# Altium integrated library Lattice CPLD ispMACH.IntLib: 663 symbols (part 47 of 48)
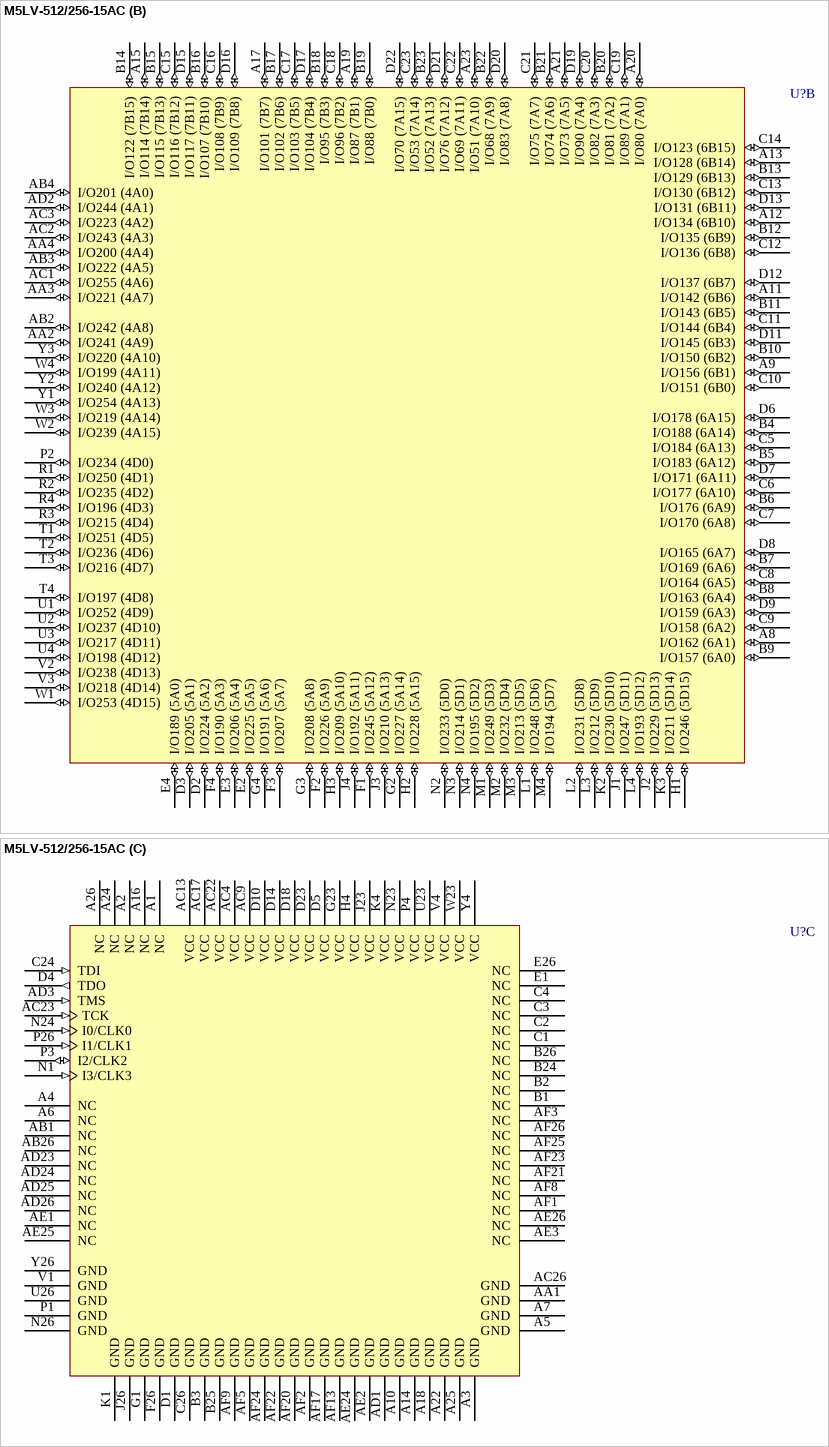
[diagram p352: symbol M5LV-512/256-15AC]

## M5LV-512/256-15AC
designator U?
High-Density and High-I/O Complex PLD; Published: 23-Sep-2002; LatestRevisionDate: 13-Apr-2006; LatestRevisionNote: IPC-7351 Footprint Added.; DatasheetVersion: Sep-2000; PackageVersion: pkg_32, Aug-2005; PackageReference: SBGA352; Publisher: Altium Limited; PackageDescription: 352-Ball Super Ball Grid Array (SBGA352); ComponentLink1Description: Manufacturer Link; ComponentLink1URL: http://www.latticesemi.com/products/mature/index.cfm; ComponentLink2Description: Datasheet; ComponentLink2URL: http://www.latticesemi.com/lit/docs/datasheets/cpld/mach5.pdf
footprint SBGA352 (BGA, 352-Leads, Body 35x35mm, Pitch 1.27mm)
3D model M5LV-SBGA352 (352-Ball Super Ball Grid Array (SBGA352))
part A pins: AA23 I/O65 (1A3) (io), AA24 I/O48 (1A7) (io), AA25 I/O29 (1A9) (io), AA26 I/O10 (1A12) (io), AB23 I/O66 (1A0) (io), AB24 I/O49 (1A4) (io), AB25 I/O30 (1A5) (io), AC5 I/O185 (3A14) (io), AC6 I/O179 (3A10) (io), AC7 I/O172 (3A6) (io), AC8 I/O166 (3A2) (io), AC10 I/O152 (3B3) (io), AC11 I/O146 (3B7) (io), AC12 I/O138 (3B11) (io), AC14 I/O124 (2B11) (io), AC15 I/O118 (2B7) (io), AC16 I/O110 (2B3) (io), AC18 I/O97 (2A3) (io), AC19 I/O91 (2A7) (io), AC20 I/O84 (2A11) (io), AC21 I/O77 (2A15) (io), AC24 I/O50 (1A1) (io), AC25 I/O31 (1A2) (io), AD4 I/O202 (3A15) (io), AD5 I/O186 (3A11) (io), AD6 I/O180 (3A8) (io), AD7 I/O173 (3A4) (io), AD8 I/O167 (3A1) (io), AD9 I/O160 (3B1) (io), AD10 I/O153 (3B4) (io), AD11 I/O147 (3B8) (io), AD12 I/O139 (3B12) (io), AD13 I/O132 (2B15) (io), AD14 I/O125 (2B12) (io), AD15 I/O119 (2B8) (io), AD16 I/O111 (2B4) (io), AD17 I/O105 (2B0) (io), AD18 I/O98 (2A2) (io), AD19 I/O92 (2A5) (io), AD20 I/O85 (2A8) (io), AD21 I/O78 (2A10) (io), AD22 I/O71 (2A13) (io), AE4 I/O203 (3A13) (io), AE5 I/O187 (3A9) (io), AE6 I/O181 (3A7) (io), AE7 I/O174 (3A3) (io), AE8 I/O168 (3B0) (io), AE9 I/O161 (3B2) (io), AE10 I/O154 (3B5) (io), AE11 I/O148 (3B9) (io), AE12 I/O140 (3B13) (io), AE13 I/O133 (3B15) (io), AE14 I/O126 (2B13) (io), AE15 I/O120 (2B9) (io), AE16 I/O112 (2B5) (io), AE17 I/O106 (2B2) (io), AE18 I/O99 (2A0) (io), AE19 I/O93 (2A4) (io), AE20 I/O86 (2A6) (io), AE21 I/O79 (2A9) (io), AE22 I/O72 (2A12) (io), AE23 I/O67 (2A14) (io), AF4 I/O204 (3A12) (io), AF6 I/O182 (3A5) (io), AF7 I/O175 (3A0) (io), AF10 I/O155 (3B6) (io), AF11 I/O149 (3B10) (io), AF12 I/O141 (3B14) (io), AF14 I/O127 (2B14) (io), AF15 I/O121 (2B10) (io), AF16 I/O113 (2B6) (io), AF18 I/O100 (2B1) (io), AF19 I/O94 (2A1) (io), C25 I/O11 (0A1) (io), D24 I/O32 (0A2) (io), D25 I/O12 (0A3) (io), D26 I/O0 (0A6) (io), E23 I/O54 (0A0) (io), E24 I/O33 (0A5) (io), E25 I/O13 (0A8) (io), F23 I/O55 (0A4) (io), F24 I/O34 (0A7) (io), F25 I/O14 (0A9) (io), G24 I/O35 (0A10) (io), G25 I/O15 (0A12) (io), G26 I/O1 (0A13) (io), H23 I/O56 (0A11) (io), H24 I/O36 (0A14) (io), H25 I/O16 (0A15) (io), H26 I/O2 (0D15) (io), J24 I/O37 (0D14) (io), J25 I/O17 (0D13) (io), K23 I/O57 (0D12) (io), K24 I/O38 (0D11) (io), K25 I/O18 (0D10) (io), K26 I/O3 (0D9) (io), L23 I/O58 (0D8) (io), L24 I/O39 (0D7) (io), L25 I/O19 (0D6) (io), L26 I/O4 (0D5) (io), M23 I/O59 (0D3) (io), M24 I/O40 (0D4) (io), M25 I/O20 (0D2) (io), M26 I/O5 (0D1) (io), N25 I/O21 (0D0) (io), P23 I/O60 (1D2) (io), P24 I/O41 (1D1) (io), P25 I/O22 (1D0) (io), R23 I/O61 (1D7) (io), R24 I/O42 (1D5) (io), R25 I/O23 (1D4) (io), R26 I/O6 (1D3) (io), T23 I/O62 (1D12) (io), T24 I/O43 (1D9) (io), T25 I/O24 (1D8) (io), T26 I/O7 (1D6) (io), U24 I/O44 (1D14) (io), U25 I/O25 (1D10) (io), V23 I/O63 (1A11) (io), V24 I/O45 (1A13) (io), V25 I/O26 (1D13) (io), V26 I/O8 (1D11) (io), W24 I/O46 (1A10) (io), W25 I/O27 (1A15) (io), W26 I/O9 (1D15) (io), Y23 I/O64 (1A6) (io), Y24 I/O47 (1A8) (io), Y25 I/O28 (1A14) (io)
part B pins: A8 I/O162 (6A1) (io), A9 I/O156 (6B1) (io), A11 I/O142 (6B6) (io), A12 I/O134 (6B10) (io), A13 I/O128 (6B14) (io), A15 I/O114 (7B14) (io), A17 I/O101 (7B7) (io), A19 I/O87 (7B1) (io), A20 I/O80 (7A0) (io), A21 I/O73 (7A5) (io), A23 I/O51 (7A10) (io), AA2 I/O241 (4A9) (io), AA3 I/O221 (4A7) (io), AA4 I/O200 (4A4) (io), AB2 I/O242 (4A8) (io), AB3 I/O222 (4A5) (io), AB4 I/O201 (4A0) (io), AC1 I/O255 (4A6) (io), AC2 I/O243 (4A3) (io), AC3 I/O223 (4A2) (io), AD2 I/O244 (4A1) (io), B4 I/O188 (6A14) (io), B5 I/O183 (6A12) (io), B6 I/O176 (6A9) (io), B7 I/O169 (6A6) (io), B8 I/O163 (6A4) (io), B9 I/O157 (6A0) (io), B10 I/O150 (6B2) (io), B11 I/O143 (6B5) (io), B12 I/O135 (6B9) (io), B13 I/O129 (6B13) (io), B14 I/O122 (7B15) (io), B15 I/O115 (7B13) (io), B16 I/O107 (7B10) (io), B17 I/O102 (7B6) (io), B18 I/O95 (7B3) (io), B19 I/O88 (7B0) (io), B20 I/O81 (7A2) (io), B21 I/O74 (7A6) (io), B22 I/O68 (7A9) (io), B23 I/O52 (7A13) (io), C5 I/O184 (6A13) (io), C6 I/O177 (6A10) (io), C7 I/O170 (6A8) (io), C8 I/O164 (6A5) (io), C9 I/O158 (6A2) (io), C10 I/O151 (6B0) (io), C11 I/O144 (6B4) (io), C12 I/O136 (6B8) (io), C13 I/O130 (6B12) (io), C14 I/O123 (6B15) (io), C15 I/O116 (7B12) (io), C16 I/O108 (7B9) (io), C17 I/O103 (7B5) (io), C18 I/O96 (7B2) (io), C19 I/O89 (7A1) (io), C20 I/O82 (7A3) (io), C21 I/O75 (7A7) (io), C22 I/O69 (7A11) (io), C23 I/O53 (7A14) (io), D2 I/O224 (5A2) (io), D3 I/O205 (5A1) (io), D6 I/O178 (6A15) (io), D7 I/O171 (6A11) (io), D8 I/O165 (6A7) (io), D9 I/O159 (6A3) (io), D11 I/O145 (6B3) (io), D12 I/O137 (6B7) (io), D13 I/O131 (6B11) (io), D15 I/O117 (7B11) (io), D16 I/O109 (7B8) (io), D17 I/O104 (7B4) (io), D19 I/O90 (7A4) (io), D20 I/O83 (7A8) (io), D21 I/O76 (7A12) (io), D22 I/O70 (7A15) (io), E2 I/O225 (5A5) (io), E3 I/O206 (5A4) (io), E4 I/O189 (5A0) (io), F1 I/O245 (5A12) (io), F2 I/O226 (5A9) (io), F3 I/O207 (5A7) (io), F4 I/O190 (5A3) (io), G2 I/O227 (5A14) (io), G3 I/O208 (5A8) (io), G4 I/O191 (5A6) (io), H1 I/O246 (5D15) (io), H2 I/O228 (5A15) (io), H3 I/O209 (5A10) (io), J1 I/O247 (5D11) (io), J2 I/O229 (5D13) (io), J3 I/O210 (5A13) (io), J4 I/O192 (5A11) (io), K2 I/O230 (5D10) (io), K3 I/O211 (5D14) (io), L1 I/O248 (5D6) (io), L2 I/O231 (5D8) (io), L3 I/O212 (5D9) (io), L4 I/O193 (5D12) (io), M1 I/O249 (5D3) (io), M2 I/O232 (5D4) (io), M3 I/O213 (5D5) (io), M4 I/O194 (5D7) (io), N2 I/O233 (5D0) (io), N3 I/O214 (5D1) (io), N4 I/O195 (5D2) (io), P2 I/O234 (4D0) (io), R1 I/O250 (4D1) (io), R2 I/O235 (4D2) (io), R3 I/O215 (4D4) (io), R4 I/O196 (4D3) (io), T1 I/O251 (4D5) (io), T2 I/O236 (4D6) (io), T3 I/O216 (4D7) (io), T4 I/O197 (4D8) (io), U1 I/O252 (4D9) (io), U2 I/O237 (4D10) (io), U3 I/O217 (4D11) (io), U4 I/O198 (4D12) (io), V2 I/O238 (4D13) (io), V3 I/O218 (4D14) (io), W1 I/O253 (4D15) (io), W2 I/O239 (4A15) (io), W3 I/O219 (4A14) (io), W4 I/O199 (4A11) (io), Y1 I/O254 (4A13) (io), Y2 I/O240 (4A12) (io), Y3 I/O220 (4A10) (io)
part C pins: A1 NC, A2 NC, A3 GND (power), A4 NC, A5 GND (power), A6 NC, A7 GND (power), A10 GND (power), A14 GND (power), A16 NC, A18 GND (power), A22 GND (power), A24 NC, A25 GND (power), A26 NC, AA1 GND (power), AB1 NC, AB26 NC, AC4 VCC (power), AC9 VCC (power), AC13 VCC (power), AC17 VCC (power), AC22 VCC (power), AC23 TCK (in), AC26 GND (power), AD1 GND (power), AD3 TMS (in), AD23 NC, AD24 NC, AD25 NC, AD26 NC, AE1 NC, AE2 GND (power), AE3 NC, AE24 GND (power), AE25 NC, AE26 NC, AF1 NC, AF2 GND (power), AF3 NC, AF5 GND (power), AF8 NC, AF9 GND (power), AF13 GND (power), AF17 GND (power), AF20 GND (power), AF21 NC, AF22 GND (power), AF23 NC, AF24 GND (power), AF25 NC, AF26 NC, B1 NC, B2 NC, B3 GND (power), B24 NC, B25 GND (power), B26 NC, C1 NC, C2 NC, C3 NC, C4 NC, C24 TDI (in), C26 GND (power), D1 GND (power), D4 TDO (out), D5 VCC (power), D10 VCC (power), D14 VCC (power), D18 VCC (power), D23 VCC (power), E1 NC, E26 NC, F26 GND (power), G1 GND (power), G23 VCC (power), H4 VCC (power), J23 VCC (power), J26 GND (power), K1 GND (power), K4 VCC (power), N1 I3/CLK3 (in), N23 VCC (power), N24 I0/CLK0 (in), N26 GND (power), P1 GND (power), P3 I2/CLK2 (io), P4 VCC (power), P26 I1/CLK1 (in), U23 VCC (power), U26 GND (power), V1 GND (power), V4 VCC (power), W23 VCC (power), Y4 VCC (power), Y26 GND (power)

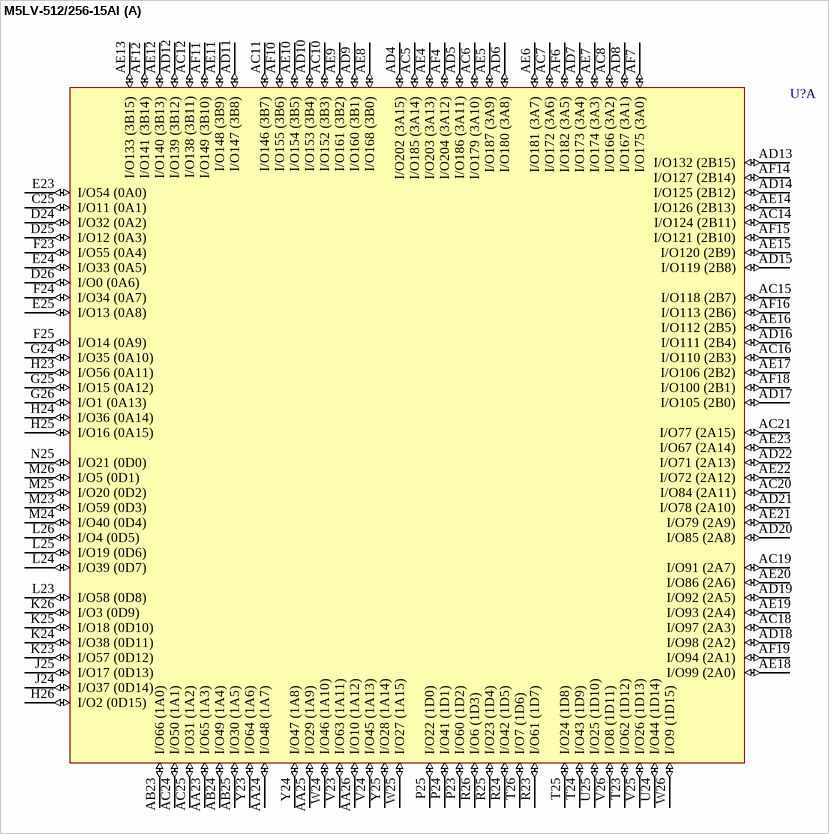
[diagram p300: symbol M5LV-512/256-15AI]

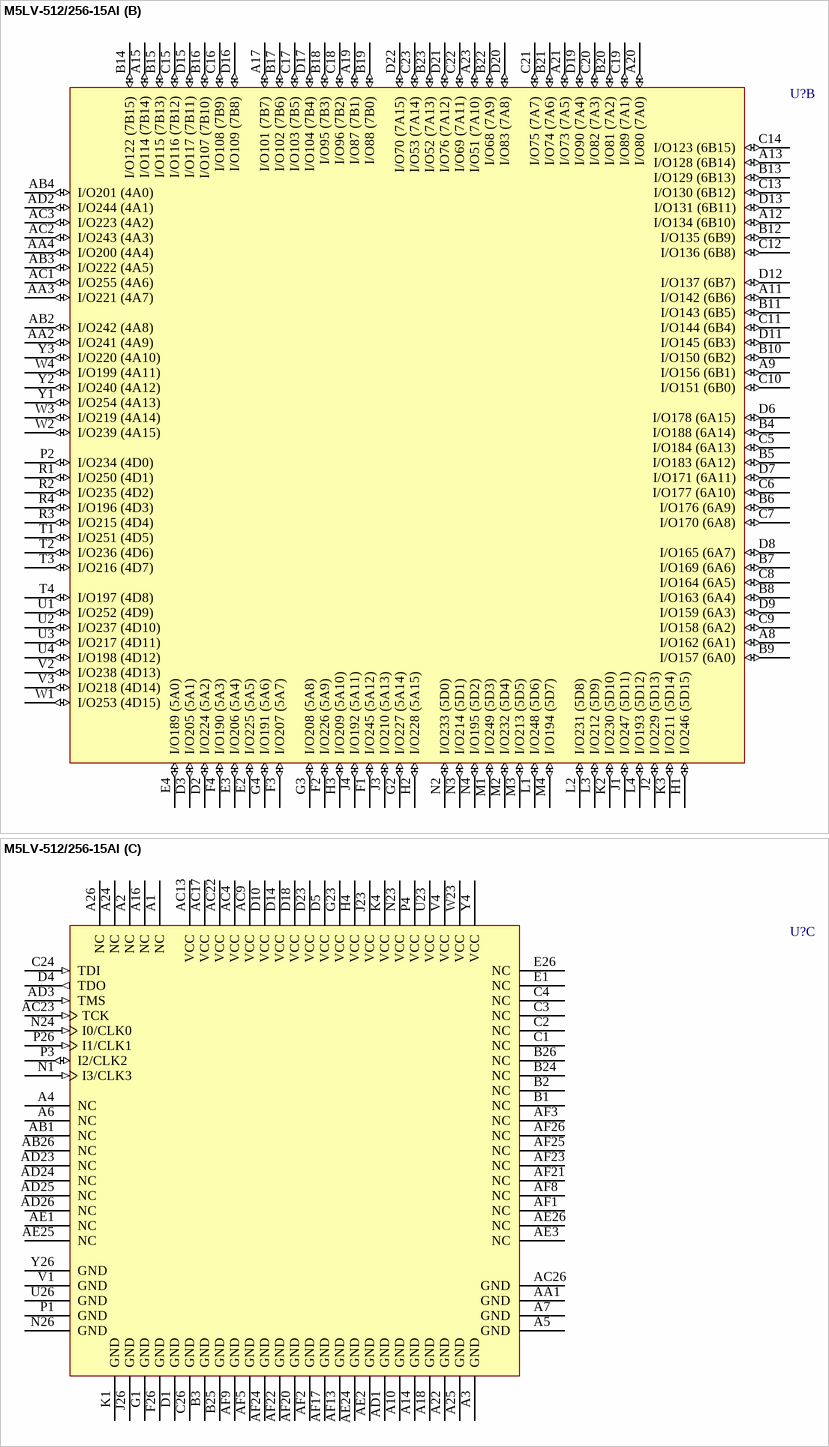
[diagram p301: symbol M5LV-512/256-15AI]

## M5LV-512/256-15AI
designator U?
High-Density and High-I/O Complex PLD; Published: 23-Sep-2002; LatestRevisionDate: 13-Apr-2006; LatestRevisionNote: IPC-7351 Footprint Added.; DatasheetVersion: Sep-2000; PackageVersion: pkg_32, Aug-2005; PackageReference: SBGA352; Publisher: Altium Limited; PackageDescription: 352-Ball Super Ball Grid Array (SBGA352); ComponentLink1Description: Manufacturer Link; ComponentLink1URL: http://www.latticesemi.com/products/mature/index.cfm; ComponentLink2Description: Datasheet; ComponentLink2URL: http://www.latticesemi.com/lit/docs/datasheets/cpld/mach5.pdf
footprint SBGA352 (BGA, 352-Leads, Body 35x35mm, Pitch 1.27mm)
3D model M5LV-SBGA352 (352-Ball Super Ball Grid Array (SBGA352))
part A pins: AA23 I/O65 (1A3) (io), AA24 I/O48 (1A7) (io), AA25 I/O29 (1A9) (io), AA26 I/O10 (1A12) (io), AB23 I/O66 (1A0) (io), AB24 I/O49 (1A4) (io), AB25 I/O30 (1A5) (io), AC5 I/O185 (3A14) (io), AC6 I/O179 (3A10) (io), AC7 I/O172 (3A6) (io), AC8 I/O166 (3A2) (io), AC10 I/O152 (3B3) (io), AC11 I/O146 (3B7) (io), AC12 I/O138 (3B11) (io), AC14 I/O124 (2B11) (io), AC15 I/O118 (2B7) (io), AC16 I/O110 (2B3) (io), AC18 I/O97 (2A3) (io), AC19 I/O91 (2A7) (io), AC20 I/O84 (2A11) (io), AC21 I/O77 (2A15) (io), AC24 I/O50 (1A1) (io), AC25 I/O31 (1A2) (io), AD4 I/O202 (3A15) (io), AD5 I/O186 (3A11) (io), AD6 I/O180 (3A8) (io), AD7 I/O173 (3A4) (io), AD8 I/O167 (3A1) (io), AD9 I/O160 (3B1) (io), AD10 I/O153 (3B4) (io), AD11 I/O147 (3B8) (io), AD12 I/O139 (3B12) (io), AD13 I/O132 (2B15) (io), AD14 I/O125 (2B12) (io), AD15 I/O119 (2B8) (io), AD16 I/O111 (2B4) (io), AD17 I/O105 (2B0) (io), AD18 I/O98 (2A2) (io), AD19 I/O92 (2A5) (io), AD20 I/O85 (2A8) (io), AD21 I/O78 (2A10) (io), AD22 I/O71 (2A13) (io), AE4 I/O203 (3A13) (io), AE5 I/O187 (3A9) (io), AE6 I/O181 (3A7) (io), AE7 I/O174 (3A3) (io), AE8 I/O168 (3B0) (io), AE9 I/O161 (3B2) (io), AE10 I/O154 (3B5) (io), AE11 I/O148 (3B9) (io), AE12 I/O140 (3B13) (io), AE13 I/O133 (3B15) (io), AE14 I/O126 (2B13) (io), AE15 I/O120 (2B9) (io), AE16 I/O112 (2B5) (io), AE17 I/O106 (2B2) (io), AE18 I/O99 (2A0) (io), AE19 I/O93 (2A4) (io), AE20 I/O86 (2A6) (io), AE21 I/O79 (2A9) (io), AE22 I/O72 (2A12) (io), AE23 I/O67 (2A14) (io), AF4 I/O204 (3A12) (io), AF6 I/O182 (3A5) (io), AF7 I/O175 (3A0) (io), AF10 I/O155 (3B6) (io), AF11 I/O149 (3B10) (io), AF12 I/O141 (3B14) (io), AF14 I/O127 (2B14) (io), AF15 I/O121 (2B10) (io), AF16 I/O113 (2B6) (io), AF18 I/O100 (2B1) (io), AF19 I/O94 (2A1) (io), C25 I/O11 (0A1) (io), D24 I/O32 (0A2) (io), D25 I/O12 (0A3) (io), D26 I/O0 (0A6) (io), E23 I/O54 (0A0) (io), E24 I/O33 (0A5) (io), E25 I/O13 (0A8) (io), F23 I/O55 (0A4) (io), F24 I/O34 (0A7) (io), F25 I/O14 (0A9) (io), G24 I/O35 (0A10) (io), G25 I/O15 (0A12) (io), G26 I/O1 (0A13) (io), H23 I/O56 (0A11) (io), H24 I/O36 (0A14) (io), H25 I/O16 (0A15) (io), H26 I/O2 (0D15) (io), J24 I/O37 (0D14) (io), J25 I/O17 (0D13) (io), K23 I/O57 (0D12) (io), K24 I/O38 (0D11) (io), K25 I/O18 (0D10) (io), K26 I/O3 (0D9) (io), L23 I/O58 (0D8) (io), L24 I/O39 (0D7) (io), L25 I/O19 (0D6) (io), L26 I/O4 (0D5) (io), M23 I/O59 (0D3) (io), M24 I/O40 (0D4) (io), M25 I/O20 (0D2) (io), M26 I/O5 (0D1) (io), N25 I/O21 (0D0) (io), P23 I/O60 (1D2) (io), P24 I/O41 (1D1) (io), P25 I/O22 (1D0) (io), R23 I/O61 (1D7) (io), R24 I/O42 (1D5) (io), R25 I/O23 (1D4) (io), R26 I/O6 (1D3) (io), T23 I/O62 (1D12) (io), T24 I/O43 (1D9) (io), T25 I/O24 (1D8) (io), T26 I/O7 (1D6) (io), U24 I/O44 (1D14) (io), U25 I/O25 (1D10) (io), V23 I/O63 (1A11) (io), V24 I/O45 (1A13) (io), V25 I/O26 (1D13) (io), V26 I/O8 (1D11) (io), W24 I/O46 (1A10) (io), W25 I/O27 (1A15) (io), W26 I/O9 (1D15) (io), Y23 I/O64 (1A6) (io), Y24 I/O47 (1A8) (io), Y25 I/O28 (1A14) (io)
part B pins: A8 I/O162 (6A1) (io), A9 I/O156 (6B1) (io), A11 I/O142 (6B6) (io), A12 I/O134 (6B10) (io), A13 I/O128 (6B14) (io), A15 I/O114 (7B14) (io), A17 I/O101 (7B7) (io), A19 I/O87 (7B1) (io), A20 I/O80 (7A0) (io), A21 I/O73 (7A5) (io), A23 I/O51 (7A10) (io), AA2 I/O241 (4A9) (io), AA3 I/O221 (4A7) (io), AA4 I/O200 (4A4) (io), AB2 I/O242 (4A8) (io), AB3 I/O222 (4A5) (io), AB4 I/O201 (4A0) (io), AC1 I/O255 (4A6) (io), AC2 I/O243 (4A3) (io), AC3 I/O223 (4A2) (io), AD2 I/O244 (4A1) (io), B4 I/O188 (6A14) (io), B5 I/O183 (6A12) (io), B6 I/O176 (6A9) (io), B7 I/O169 (6A6) (io), B8 I/O163 (6A4) (io), B9 I/O157 (6A0) (io), B10 I/O150 (6B2) (io), B11 I/O143 (6B5) (io), B12 I/O135 (6B9) (io), B13 I/O129 (6B13) (io), B14 I/O122 (7B15) (io), B15 I/O115 (7B13) (io), B16 I/O107 (7B10) (io), B17 I/O102 (7B6) (io), B18 I/O95 (7B3) (io), B19 I/O88 (7B0) (io), B20 I/O81 (7A2) (io), B21 I/O74 (7A6) (io), B22 I/O68 (7A9) (io), B23 I/O52 (7A13) (io), C5 I/O184 (6A13) (io), C6 I/O177 (6A10) (io), C7 I/O170 (6A8) (io), C8 I/O164 (6A5) (io), C9 I/O158 (6A2) (io), C10 I/O151 (6B0) (io), C11 I/O144 (6B4) (io), C12 I/O136 (6B8) (io), C13 I/O130 (6B12) (io), C14 I/O123 (6B15) (io), C15 I/O116 (7B12) (io), C16 I/O108 (7B9) (io), C17 I/O103 (7B5) (io), C18 I/O96 (7B2) (io), C19 I/O89 (7A1) (io), C20 I/O82 (7A3) (io), C21 I/O75 (7A7) (io), C22 I/O69 (7A11) (io), C23 I/O53 (7A14) (io), D2 I/O224 (5A2) (io), D3 I/O205 (5A1) (io), D6 I/O178 (6A15) (io), D7 I/O171 (6A11) (io), D8 I/O165 (6A7) (io), D9 I/O159 (6A3) (io), D11 I/O145 (6B3) (io), D12 I/O137 (6B7) (io), D13 I/O131 (6B11) (io), D15 I/O117 (7B11) (io), D16 I/O109 (7B8) (io), D17 I/O104 (7B4) (io), D19 I/O90 (7A4) (io), D20 I/O83 (7A8) (io), D21 I/O76 (7A12) (io), D22 I/O70 (7A15) (io), E2 I/O225 (5A5) (io), E3 I/O206 (5A4) (io), E4 I/O189 (5A0) (io), F1 I/O245 (5A12) (io), F2 I/O226 (5A9) (io), F3 I/O207 (5A7) (io), F4 I/O190 (5A3) (io), G2 I/O227 (5A14) (io), G3 I/O208 (5A8) (io), G4 I/O191 (5A6) (io), H1 I/O246 (5D15) (io), H2 I/O228 (5A15) (io), H3 I/O209 (5A10) (io), J1 I/O247 (5D11) (io), J2 I/O229 (5D13) (io), J3 I/O210 (5A13) (io), J4 I/O192 (5A11) (io), K2 I/O230 (5D10) (io), K3 I/O211 (5D14) (io), L1 I/O248 (5D6) (io), L2 I/O231 (5D8) (io), L3 I/O212 (5D9) (io), L4 I/O193 (5D12) (io), M1 I/O249 (5D3) (io), M2 I/O232 (5D4) (io), M3 I/O213 (5D5) (io), M4 I/O194 (5D7) (io), N2 I/O233 (5D0) (io), N3 I/O214 (5D1) (io), N4 I/O195 (5D2) (io), P2 I/O234 (4D0) (io), R1 I/O250 (4D1) (io), R2 I/O235 (4D2) (io), R3 I/O215 (4D4) (io), R4 I/O196 (4D3) (io), T1 I/O251 (4D5) (io), T2 I/O236 (4D6) (io), T3 I/O216 (4D7) (io), T4 I/O197 (4D8) (io), U1 I/O252 (4D9) (io), U2 I/O237 (4D10) (io), U3 I/O217 (4D11) (io), U4 I/O198 (4D12) (io), V2 I/O238 (4D13) (io), V3 I/O218 (4D14) (io), W1 I/O253 (4D15) (io), W2 I/O239 (4A15) (io), W3 I/O219 (4A14) (io), W4 I/O199 (4A11) (io), Y1 I/O254 (4A13) (io), Y2 I/O240 (4A12) (io), Y3 I/O220 (4A10) (io)
part C pins: A1 NC, A2 NC, A3 GND (power), A4 NC, A5 GND (power), A6 NC, A7 GND (power), A10 GND (power), A14 GND (power), A16 NC, A18 GND (power), A22 GND (power), A24 NC, A25 GND (power), A26 NC, AA1 GND (power), AB1 NC, AB26 NC, AC4 VCC (power), AC9 VCC (power), AC13 VCC (power), AC17 VCC (power), AC22 VCC (power), AC23 TCK (in), AC26 GND (power), AD1 GND (power), AD3 TMS (in), AD23 NC, AD24 NC, AD25 NC, AD26 NC, AE1 NC, AE2 GND (power), AE3 NC, AE24 GND (power), AE25 NC, AE26 NC, AF1 NC, AF2 GND (power), AF3 NC, AF5 GND (power), AF8 NC, AF9 GND (power), AF13 GND (power), AF17 GND (power), AF20 GND (power), AF21 NC, AF22 GND (power), AF23 NC, AF24 GND (power), AF25 NC, AF26 NC, B1 NC, B2 NC, B3 GND (power), B24 NC, B25 GND (power), B26 NC, C1 NC, C2 NC, C3 NC, C4 NC, C24 TDI (in), C26 GND (power), D1 GND (power), D4 TDO (out), D5 VCC (power), D10 VCC (power), D14 VCC (power), D18 VCC (power), D23 VCC (power), E1 NC, E26 NC, F26 GND (power), G1 GND (power), G23 VCC (power), H4 VCC (power), J23 VCC (power), J26 GND (power), K1 GND (power), K4 VCC (power), N1 I3/CLK3 (in), N23 VCC (power), N24 I0/CLK0 (in), N26 GND (power), P1 GND (power), P3 I2/CLK2 (io), P4 VCC (power), P26 I1/CLK1 (in), U23 VCC (power), U26 GND (power), V1 GND (power), V4 VCC (power), W23 VCC (power), Y4 VCC (power), Y26 GND (power)

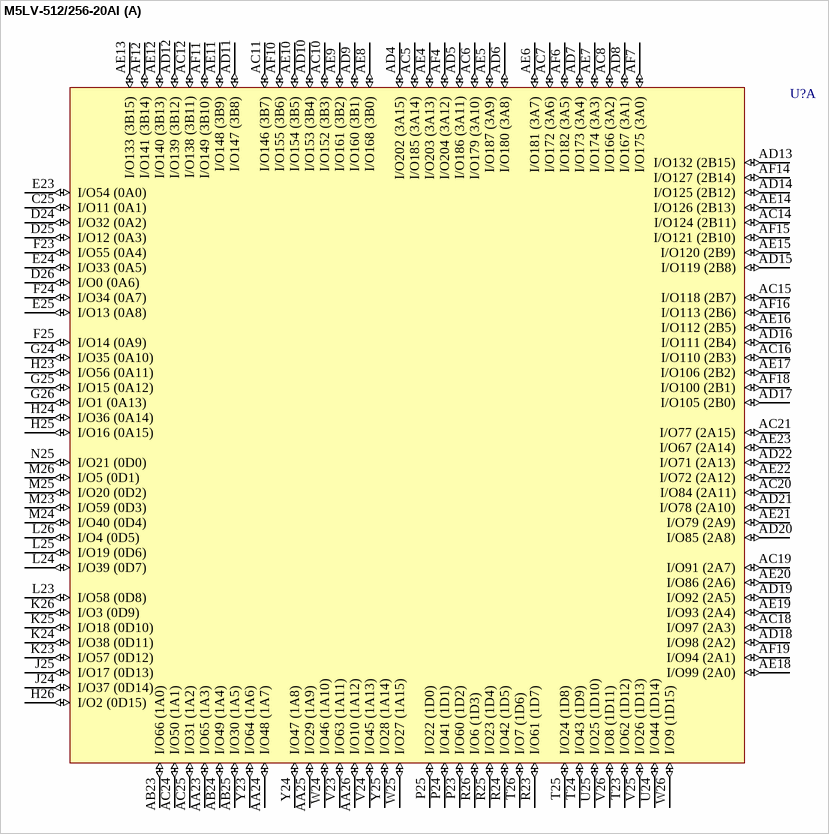
[diagram p302: symbol M5LV-512/256-20AI]

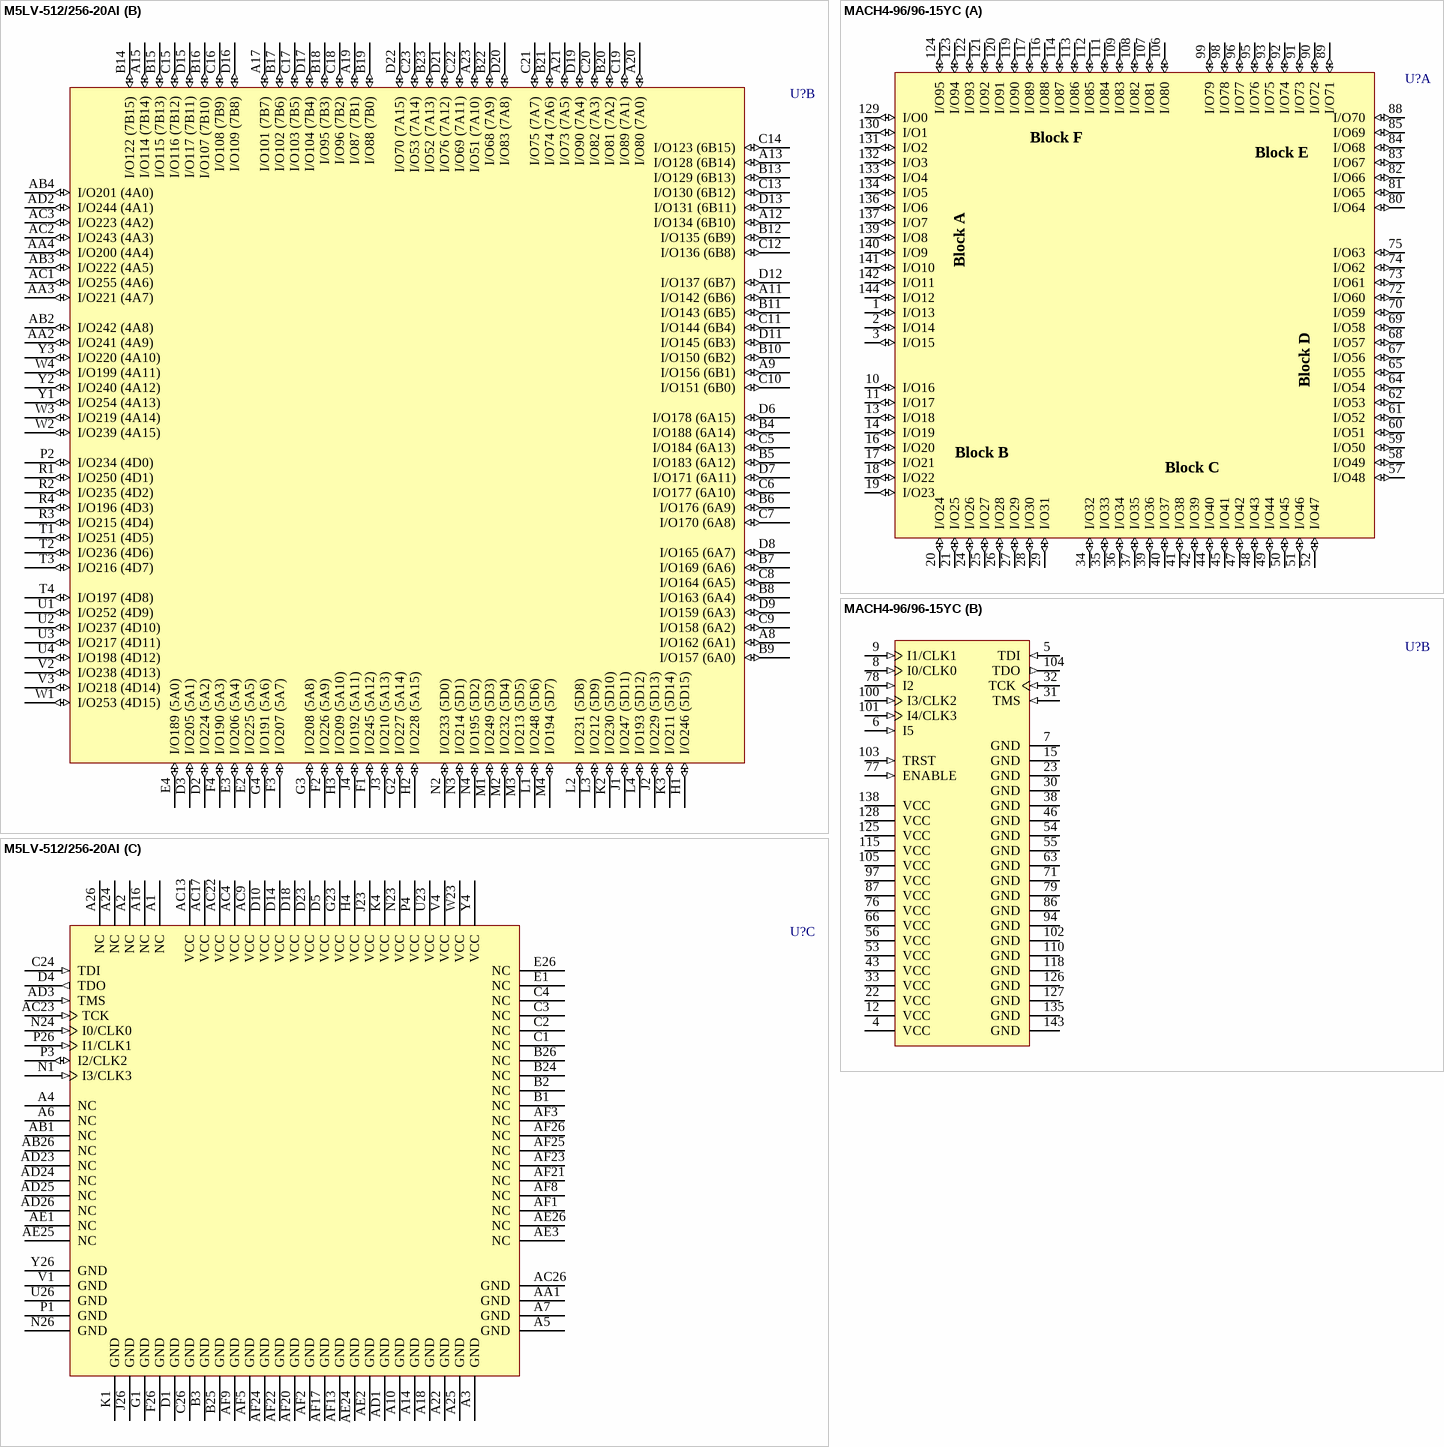
[diagram p303: symbols M5LV-512/256-20AI to MACH4-96/96-15YC]

## M5LV-512/256-20AI
designator U?
High-Density and High-I/O Complex PLD; Published: 23-Sep-2002; LatestRevisionDate: 13-Apr-2006; LatestRevisionNote: IPC-7351 Footprint Added.; DatasheetVersion: Sep-2000; PackageVersion: pkg_32, Aug-2005; PackageReference: SBGA352; Publisher: Altium Limited; PackageDescription: 352-Ball Super Ball Grid Array (SBGA352); ComponentLink1Description: Manufacturer Link; ComponentLink1URL: http://www.latticesemi.com/products/mature/index.cfm; ComponentLink2Description: Datasheet; ComponentLink2URL: http://www.latticesemi.com/lit/docs/datasheets/cpld/mach5.pdf
footprint SBGA352 (BGA, 352-Leads, Body 35x35mm, Pitch 1.27mm)
3D model M5LV-SBGA352 (352-Ball Super Ball Grid Array (SBGA352))
part A pins: AA23 I/O65 (1A3) (io), AA24 I/O48 (1A7) (io), AA25 I/O29 (1A9) (io), AA26 I/O10 (1A12) (io), AB23 I/O66 (1A0) (io), AB24 I/O49 (1A4) (io), AB25 I/O30 (1A5) (io), AC5 I/O185 (3A14) (io), AC6 I/O179 (3A10) (io), AC7 I/O172 (3A6) (io), AC8 I/O166 (3A2) (io), AC10 I/O152 (3B3) (io), AC11 I/O146 (3B7) (io), AC12 I/O138 (3B11) (io), AC14 I/O124 (2B11) (io), AC15 I/O118 (2B7) (io), AC16 I/O110 (2B3) (io), AC18 I/O97 (2A3) (io), AC19 I/O91 (2A7) (io), AC20 I/O84 (2A11) (io), AC21 I/O77 (2A15) (io), AC24 I/O50 (1A1) (io), AC25 I/O31 (1A2) (io), AD4 I/O202 (3A15) (io), AD5 I/O186 (3A11) (io), AD6 I/O180 (3A8) (io), AD7 I/O173 (3A4) (io), AD8 I/O167 (3A1) (io), AD9 I/O160 (3B1) (io), AD10 I/O153 (3B4) (io), AD11 I/O147 (3B8) (io), AD12 I/O139 (3B12) (io), AD13 I/O132 (2B15) (io), AD14 I/O125 (2B12) (io), AD15 I/O119 (2B8) (io), AD16 I/O111 (2B4) (io), AD17 I/O105 (2B0) (io), AD18 I/O98 (2A2) (io), AD19 I/O92 (2A5) (io), AD20 I/O85 (2A8) (io), AD21 I/O78 (2A10) (io), AD22 I/O71 (2A13) (io), AE4 I/O203 (3A13) (io), AE5 I/O187 (3A9) (io), AE6 I/O181 (3A7) (io), AE7 I/O174 (3A3) (io), AE8 I/O168 (3B0) (io), AE9 I/O161 (3B2) (io), AE10 I/O154 (3B5) (io), AE11 I/O148 (3B9) (io), AE12 I/O140 (3B13) (io), AE13 I/O133 (3B15) (io), AE14 I/O126 (2B13) (io), AE15 I/O120 (2B9) (io), AE16 I/O112 (2B5) (io), AE17 I/O106 (2B2) (io), AE18 I/O99 (2A0) (io), AE19 I/O93 (2A4) (io), AE20 I/O86 (2A6) (io), AE21 I/O79 (2A9) (io), AE22 I/O72 (2A12) (io), AE23 I/O67 (2A14) (io), AF4 I/O204 (3A12) (io), AF6 I/O182 (3A5) (io), AF7 I/O175 (3A0) (io), AF10 I/O155 (3B6) (io), AF11 I/O149 (3B10) (io), AF12 I/O141 (3B14) (io), AF14 I/O127 (2B14) (io), AF15 I/O121 (2B10) (io), AF16 I/O113 (2B6) (io), AF18 I/O100 (2B1) (io), AF19 I/O94 (2A1) (io), C25 I/O11 (0A1) (io), D24 I/O32 (0A2) (io), D25 I/O12 (0A3) (io), D26 I/O0 (0A6) (io), E23 I/O54 (0A0) (io), E24 I/O33 (0A5) (io), E25 I/O13 (0A8) (io), F23 I/O55 (0A4) (io), F24 I/O34 (0A7) (io), F25 I/O14 (0A9) (io), G24 I/O35 (0A10) (io), G25 I/O15 (0A12) (io), G26 I/O1 (0A13) (io), H23 I/O56 (0A11) (io), H24 I/O36 (0A14) (io), H25 I/O16 (0A15) (io), H26 I/O2 (0D15) (io), J24 I/O37 (0D14) (io), J25 I/O17 (0D13) (io), K23 I/O57 (0D12) (io), K24 I/O38 (0D11) (io), K25 I/O18 (0D10) (io), K26 I/O3 (0D9) (io), L23 I/O58 (0D8) (io), L24 I/O39 (0D7) (io), L25 I/O19 (0D6) (io), L26 I/O4 (0D5) (io), M23 I/O59 (0D3) (io), M24 I/O40 (0D4) (io), M25 I/O20 (0D2) (io), M26 I/O5 (0D1) (io), N25 I/O21 (0D0) (io), P23 I/O60 (1D2) (io), P24 I/O41 (1D1) (io), P25 I/O22 (1D0) (io), R23 I/O61 (1D7) (io), R24 I/O42 (1D5) (io), R25 I/O23 (1D4) (io), R26 I/O6 (1D3) (io), T23 I/O62 (1D12) (io), T24 I/O43 (1D9) (io), T25 I/O24 (1D8) (io), T26 I/O7 (1D6) (io), U24 I/O44 (1D14) (io), U25 I/O25 (1D10) (io), V23 I/O63 (1A11) (io), V24 I/O45 (1A13) (io), V25 I/O26 (1D13) (io), V26 I/O8 (1D11) (io), W24 I/O46 (1A10) (io), W25 I/O27 (1A15) (io), W26 I/O9 (1D15) (io), Y23 I/O64 (1A6) (io), Y24 I/O47 (1A8) (io), Y25 I/O28 (1A14) (io)
part B pins: A8 I/O162 (6A1) (io), A9 I/O156 (6B1) (io), A11 I/O142 (6B6) (io), A12 I/O134 (6B10) (io), A13 I/O128 (6B14) (io), A15 I/O114 (7B14) (io), A17 I/O101 (7B7) (io), A19 I/O87 (7B1) (io), A20 I/O80 (7A0) (io), A21 I/O73 (7A5) (io), A23 I/O51 (7A10) (io), AA2 I/O241 (4A9) (io), AA3 I/O221 (4A7) (io), AA4 I/O200 (4A4) (io), AB2 I/O242 (4A8) (io), AB3 I/O222 (4A5) (io), AB4 I/O201 (4A0) (io), AC1 I/O255 (4A6) (io), AC2 I/O243 (4A3) (io), AC3 I/O223 (4A2) (io), AD2 I/O244 (4A1) (io), B4 I/O188 (6A14) (io), B5 I/O183 (6A12) (io), B6 I/O176 (6A9) (io), B7 I/O169 (6A6) (io), B8 I/O163 (6A4) (io), B9 I/O157 (6A0) (io), B10 I/O150 (6B2) (io), B11 I/O143 (6B5) (io), B12 I/O135 (6B9) (io), B13 I/O129 (6B13) (io), B14 I/O122 (7B15) (io), B15 I/O115 (7B13) (io), B16 I/O107 (7B10) (io), B17 I/O102 (7B6) (io), B18 I/O95 (7B3) (io), B19 I/O88 (7B0) (io), B20 I/O81 (7A2) (io), B21 I/O74 (7A6) (io), B22 I/O68 (7A9) (io), B23 I/O52 (7A13) (io), C5 I/O184 (6A13) (io), C6 I/O177 (6A10) (io), C7 I/O170 (6A8) (io), C8 I/O164 (6A5) (io), C9 I/O158 (6A2) (io), C10 I/O151 (6B0) (io), C11 I/O144 (6B4) (io), C12 I/O136 (6B8) (io), C13 I/O130 (6B12) (io), C14 I/O123 (6B15) (io), C15 I/O116 (7B12) (io), C16 I/O108 (7B9) (io), C17 I/O103 (7B5) (io), C18 I/O96 (7B2) (io), C19 I/O89 (7A1) (io), C20 I/O82 (7A3) (io), C21 I/O75 (7A7) (io), C22 I/O69 (7A11) (io), C23 I/O53 (7A14) (io), D2 I/O224 (5A2) (io), D3 I/O205 (5A1) (io), D6 I/O178 (6A15) (io), D7 I/O171 (6A11) (io), D8 I/O165 (6A7) (io), D9 I/O159 (6A3) (io), D11 I/O145 (6B3) (io), D12 I/O137 (6B7) (io), D13 I/O131 (6B11) (io), D15 I/O117 (7B11) (io), D16 I/O109 (7B8) (io), D17 I/O104 (7B4) (io), D19 I/O90 (7A4) (io), D20 I/O83 (7A8) (io), D21 I/O76 (7A12) (io), D22 I/O70 (7A15) (io), E2 I/O225 (5A5) (io), E3 I/O206 (5A4) (io), E4 I/O189 (5A0) (io), F1 I/O245 (5A12) (io), F2 I/O226 (5A9) (io), F3 I/O207 (5A7) (io), F4 I/O190 (5A3) (io), G2 I/O227 (5A14) (io), G3 I/O208 (5A8) (io), G4 I/O191 (5A6) (io), H1 I/O246 (5D15) (io), H2 I/O228 (5A15) (io), H3 I/O209 (5A10) (io), J1 I/O247 (5D11) (io), J2 I/O229 (5D13) (io), J3 I/O210 (5A13) (io), J4 I/O192 (5A11) (io), K2 I/O230 (5D10) (io), K3 I/O211 (5D14) (io), L1 I/O248 (5D6) (io), L2 I/O231 (5D8) (io), L3 I/O212 (5D9) (io), L4 I/O193 (5D12) (io), M1 I/O249 (5D3) (io), M2 I/O232 (5D4) (io), M3 I/O213 (5D5) (io), M4 I/O194 (5D7) (io), N2 I/O233 (5D0) (io), N3 I/O214 (5D1) (io), N4 I/O195 (5D2) (io), P2 I/O234 (4D0) (io), R1 I/O250 (4D1) (io), R2 I/O235 (4D2) (io), R3 I/O215 (4D4) (io), R4 I/O196 (4D3) (io), T1 I/O251 (4D5) (io), T2 I/O236 (4D6) (io), T3 I/O216 (4D7) (io), T4 I/O197 (4D8) (io), U1 I/O252 (4D9) (io), U2 I/O237 (4D10) (io), U3 I/O217 (4D11) (io), U4 I/O198 (4D12) (io), V2 I/O238 (4D13) (io), V3 I/O218 (4D14) (io), W1 I/O253 (4D15) (io), W2 I/O239 (4A15) (io), W3 I/O219 (4A14) (io), W4 I/O199 (4A11) (io), Y1 I/O254 (4A13) (io), Y2 I/O240 (4A12) (io), Y3 I/O220 (4A10) (io)
part C pins: A1 NC, A2 NC, A3 GND (power), A4 NC, A5 GND (power), A6 NC, A7 GND (power), A10 GND (power), A14 GND (power), A16 NC, A18 GND (power), A22 GND (power), A24 NC, A25 GND (power), A26 NC, AA1 GND (power), AB1 NC, AB26 NC, AC4 VCC (power), AC9 VCC (power), AC13 VCC (power), AC17 VCC (power), AC22 VCC (power), AC23 TCK (in), AC26 GND (power), AD1 GND (power), AD3 TMS (in), AD23 NC, AD24 NC, AD25 NC, AD26 NC, AE1 NC, AE2 GND (power), AE3 NC, AE24 GND (power), AE25 NC, AE26 NC, AF1 NC, AF2 GND (power), AF3 NC, AF5 GND (power), AF8 NC, AF9 GND (power), AF13 GND (power), AF17 GND (power), AF20 GND (power), AF21 NC, AF22 GND (power), AF23 NC, AF24 GND (power), AF25 NC, AF26 NC, B1 NC, B2 NC, B3 GND (power), B24 NC, B25 GND (power), B26 NC, C1 NC, C2 NC, C3 NC, C4 NC, C24 TDI (in), C26 GND (power), D1 GND (power), D4 TDO (out), D5 VCC (power), D10 VCC (power), D14 VCC (power), D18 VCC (power), D23 VCC (power), E1 NC, E26 NC, F26 GND (power), G1 GND (power), G23 VCC (power), H4 VCC (power), J23 VCC (power), J26 GND (power), K1 GND (power), K4 VCC (power), N1 I3/CLK3 (in), N23 VCC (power), N24 I0/CLK0 (in), N26 GND (power), P1 GND (power), P3 I2/CLK2 (io), P4 VCC (power), P26 I1/CLK1 (in), U23 VCC (power), U26 GND (power), V1 GND (power), V4 VCC (power), W23 VCC (power), Y4 VCC (power), Y26 GND (power)

## MACH4-96/96-15YC
designator U?
High-Performance EE CMOS Programmable Logic; Published: 23-Sep-2002; LatestRevisionDate: 13-Apr-2006; LatestRevisionNote: IPC-7351 Footprint Added.; DatasheetVersion: Nov-1997; PackageVersion: pkg_32, Aug-2005; PackageReference: PQFP144; Publisher: Altium Limited; PackageDescription: 144-Pin Quad Flat Pack 0.65 mm Pitch; Code_IPC: QFP65P3120X3120-144; ComponentLink1Description: Manufacturer Link; ComponentLink1URL: http://www.latticesemi.com/products/mature/index.cfm; ComponentLink2Description: Datasheet; ComponentLink2URL: http://www.latticesemi.com/lit/docs/datasheets/cpld/21535.pdf
footprint PQFP144_N (QFP, 144-Leads, Body 28 x 28mm, Pitch 0.65mm, IPC Medium Density)
footprint PQFP144_L (QFP, 144-Leads, Body 28 x 28mm, Pitch 0.65mm, IPC High Density)
footprint PQFP144_M (QFP, 144-Leads, Body 28 x 28mm, Pitch 0.65mm, IPC Low Density)
3D model MACH4-96-PQFP144 (144-Pin Quad Flat Pack 0.65 mm Pitch)
part A pins: 1 I/O13 (io), 2 I/O14 (io), 3 I/O15 (io), 10 I/O16 (io), 11 I/O17 (io), 13 I/O18 (io), 14 I/O19 (io), 16 I/O20 (io), 17 I/O21 (io), 18 I/O22 (io), 19 I/O23 (io), 20 I/O24 (io), 21 I/O25 (io), 24 I/O26 (io), 25 I/O27 (io), 26 I/O28 (io), 27 I/O29 (io), 28 I/O30 (io), 29 I/O31 (io), 34 I/O32 (io), 35 I/O33 (io), 36 I/O34 (io), 37 I/O35 (io), 39 I/O36 (io), 40 I/O37 (io), 41 I/O38 (io), 42 I/O39 (io), 44 I/O40 (io), 45 I/O41 (io), 47 I/O42 (io), 48 I/O43 (io), 49 I/O44 (io), 50 I/O45 (io), 51 I/O46 (io), 52 I/O47 (io), 57 I/O48 (io), 58 I/O49 (io), 59 I/O50 (io), 60 I/O51 (io), 61 I/O52 (io), 62 I/O53 (io), 64 I/O54 (io), 65 I/O55 (io), 67 I/O56 (io), 68 I/O57 (io), 69 I/O58 (io), 70 I/O59 (io), 72 I/O60 (io), 73 I/O61 (io), 74 I/O62 (io), 75 I/O63 (io), 80 I/O64 (io), 81 I/O65 (io), 82 I/O66 (io), 83 I/O67 (io), 84 I/O68 (io), 85 I/O69 (io), 88 I/O70 (io), 89 I/O71 (io), 90 I/O72 (io), 91 I/O73 (io), 92 I/O74 (io), 93 I/O75 (io), 95 I/O76 (io), 96 I/O77 (io), 98 I/O78 (io), 99 I/O79 (io), 106 I/O80 (io), 107 I/O81 (io), 108 I/O82 (io), 109 I/O83 (io), 111 I/O84 (io), 112 I/O85 (io), 113 I/O86 (io), 114 I/O87 (io), 116 I/O88 (io), 117 I/O89 (io), 119 I/O90 (io), 120 I/O91 (io), 121 I/O92 (io), 122 I/O93 (io), 123 I/O94 (io), 124 I/O95 (io), 129 I/O0 (io), 130 I/O1 (io), 131 I/O2 (io), 132 I/O3 (io), 133 I/O4 (io), 134 I/O5 (io), 136 I/O6 (io), 137 I/O7 (io), 139 I/O8 (io), 140 I/O9 (io), 141 I/O10 (io), 142 I/O11 (io), 144 I/O12 (io)
part B pins: 4 VCC (power), 5 TDI (in), 6 I5 (in), 7 GND (power), 8 I0/CLK0 (in), 9 I1/CLK1 (in), 12 VCC (power), 15 GND (power), 22 VCC (power), 23 GND (power), 30 GND (power), 31 TMS (in), 32 TCK (in), 33 VCC (power), 38 GND (power), 43 VCC (power), 46 GND (power), 53 VCC (power), 54 GND (power), 55 GND (power), 56 VCC (power), 63 GND (power), 66 VCC (power), 71 GND (power), 76 VCC (power), 77 ENABLE (in), 78 I2 (in), 79 GND (power), 86 GND (power), 87 VCC (power), 94 GND (power), 97 VCC (power), 100 I3/CLK2 (in), 101 I4/CLK3 (in), 102 GND (power), 103 TRST (in), 104 TDO (out), 105 VCC (power), 110 GND (power), 115 VCC (power), 118 GND (power), 125 VCC (power), 126 GND (power), 127 GND (power), 128 VCC (power), 135 GND (power), 138 VCC (power), 143 GND (power)
part A text: Block F; Block E; Block A; Block D; Block B; Block C

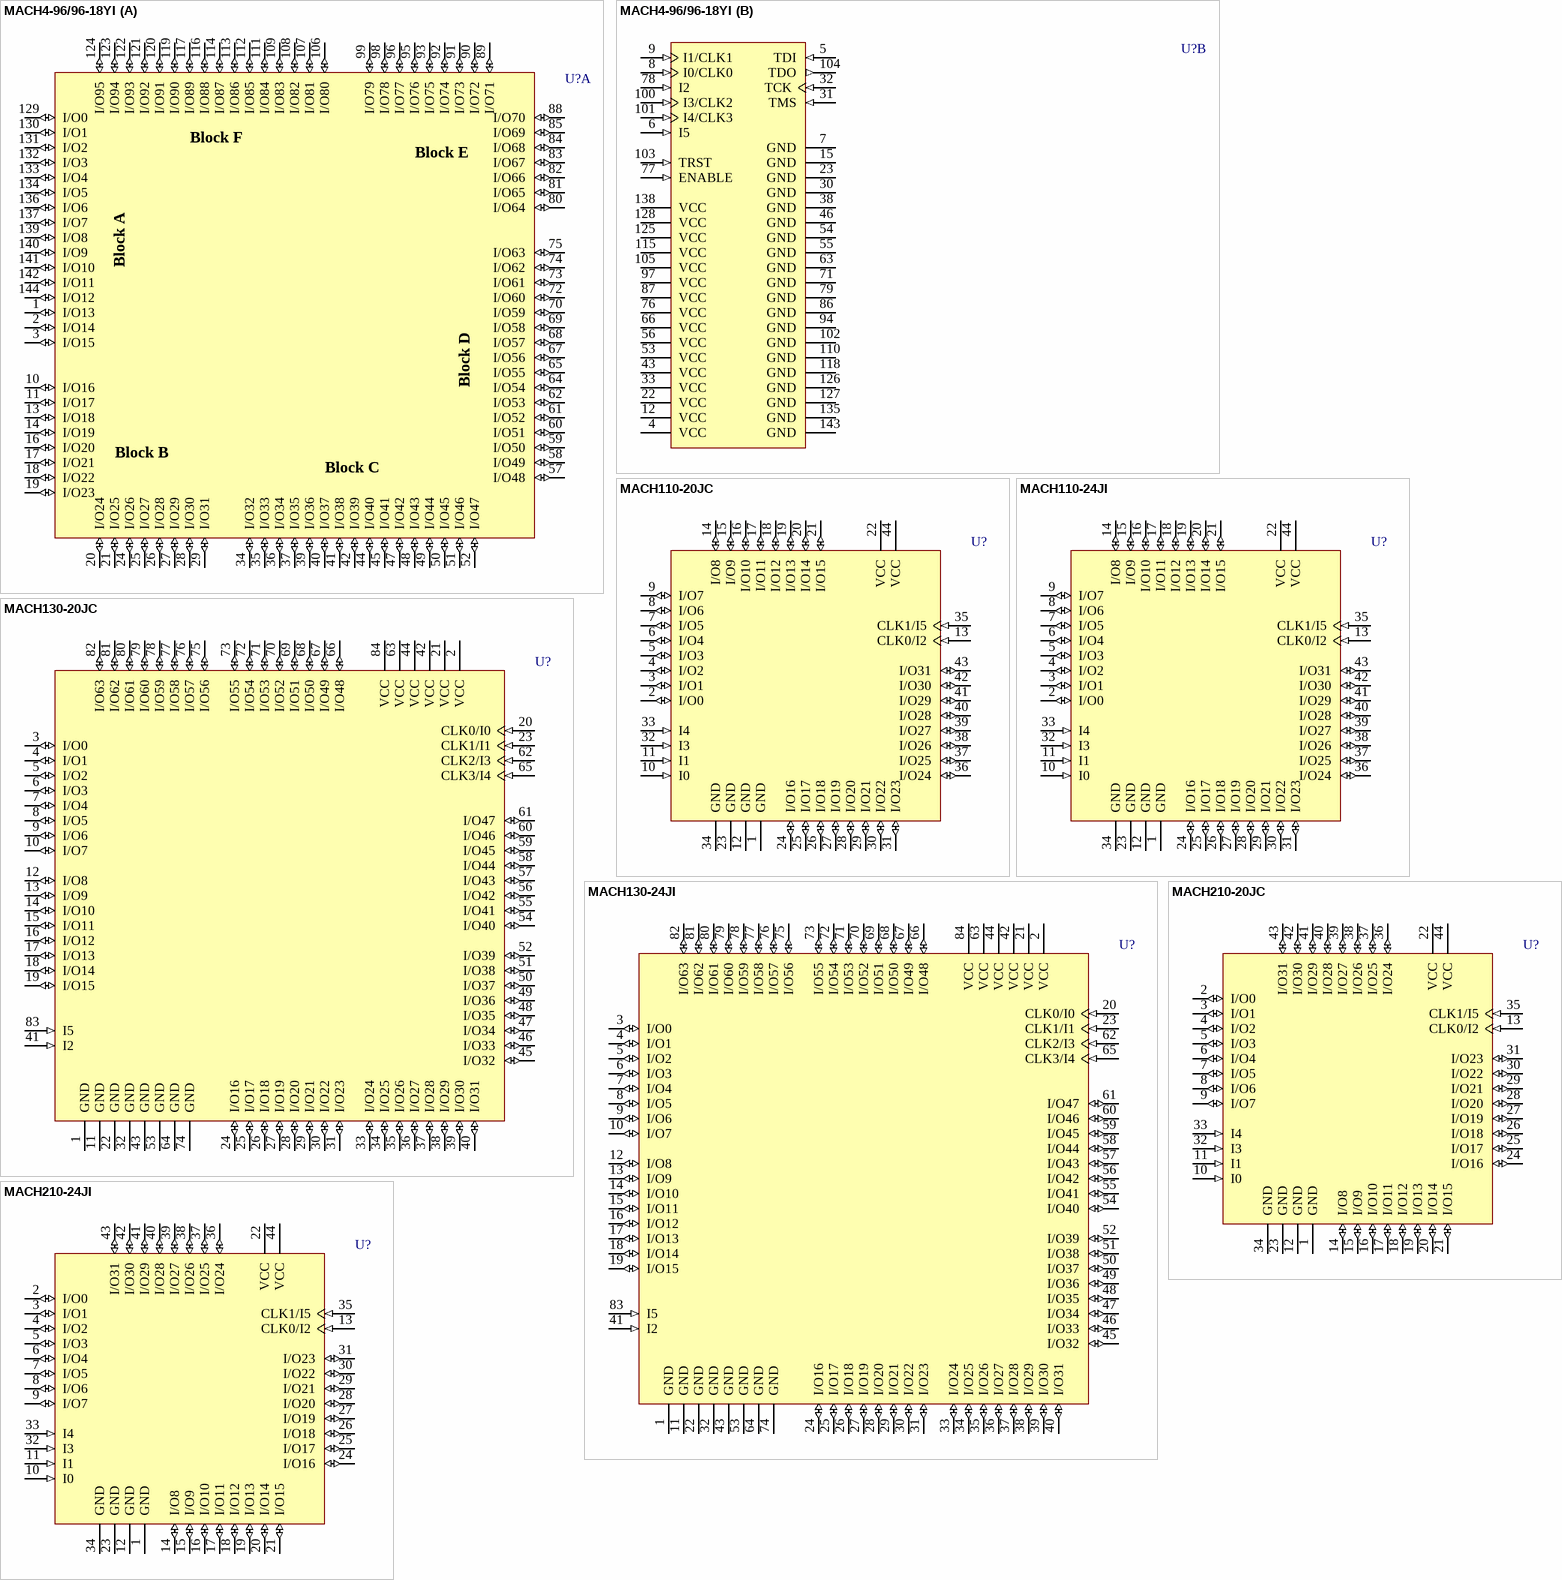
[diagram p304: symbols MACH4-96/96-18YI to MACH210-24JI]

## MACH4-96/96-18YI
designator U?
High-Performance EE CMOS Programmable Logic; Published: 23-Sep-2002; LatestRevisionDate: 13-Apr-2006; LatestRevisionNote: IPC-7351 Footprint Added.; DatasheetVersion: Nov-1997; PackageVersion: pkg_32, Aug-2005; PackageReference: PQFP144; Publisher: Altium Limited; PackageDescription: 144-Pin Quad Flat Pack 0.65 mm Pitch; Code_IPC: QFP65P3120X3120-144; ComponentLink1Description: Manufacturer Link; ComponentLink1URL: http://www.latticesemi.com/products/mature/index.cfm; ComponentLink2Description: Datasheet; ComponentLink2URL: http://www.latticesemi.com/lit/docs/datasheets/cpld/21535.pdf
footprint PQFP144_N (QFP, 144-Leads, Body 28 x 28mm, Pitch 0.65mm, IPC Medium Density)
footprint PQFP144_L (QFP, 144-Leads, Body 28 x 28mm, Pitch 0.65mm, IPC High Density)
footprint PQFP144_M (QFP, 144-Leads, Body 28 x 28mm, Pitch 0.65mm, IPC Low Density)
3D model MACH4-96-PQFP144 (144-Pin Quad Flat Pack 0.65 mm Pitch)
part A pins: 1 I/O13 (io), 2 I/O14 (io), 3 I/O15 (io), 10 I/O16 (io), 11 I/O17 (io), 13 I/O18 (io), 14 I/O19 (io), 16 I/O20 (io), 17 I/O21 (io), 18 I/O22 (io), 19 I/O23 (io), 20 I/O24 (io), 21 I/O25 (io), 24 I/O26 (io), 25 I/O27 (io), 26 I/O28 (io), 27 I/O29 (io), 28 I/O30 (io), 29 I/O31 (io), 34 I/O32 (io), 35 I/O33 (io), 36 I/O34 (io), 37 I/O35 (io), 39 I/O36 (io), 40 I/O37 (io), 41 I/O38 (io), 42 I/O39 (io), 44 I/O40 (io), 45 I/O41 (io), 47 I/O42 (io), 48 I/O43 (io), 49 I/O44 (io), 50 I/O45 (io), 51 I/O46 (io), 52 I/O47 (io), 57 I/O48 (io), 58 I/O49 (io), 59 I/O50 (io), 60 I/O51 (io), 61 I/O52 (io), 62 I/O53 (io), 64 I/O54 (io), 65 I/O55 (io), 67 I/O56 (io), 68 I/O57 (io), 69 I/O58 (io), 70 I/O59 (io), 72 I/O60 (io), 73 I/O61 (io), 74 I/O62 (io), 75 I/O63 (io), 80 I/O64 (io), 81 I/O65 (io), 82 I/O66 (io), 83 I/O67 (io), 84 I/O68 (io), 85 I/O69 (io), 88 I/O70 (io), 89 I/O71 (io), 90 I/O72 (io), 91 I/O73 (io), 92 I/O74 (io), 93 I/O75 (io), 95 I/O76 (io), 96 I/O77 (io), 98 I/O78 (io), 99 I/O79 (io), 106 I/O80 (io), 107 I/O81 (io), 108 I/O82 (io), 109 I/O83 (io), 111 I/O84 (io), 112 I/O85 (io), 113 I/O86 (io), 114 I/O87 (io), 116 I/O88 (io), 117 I/O89 (io), 119 I/O90 (io), 120 I/O91 (io), 121 I/O92 (io), 122 I/O93 (io), 123 I/O94 (io), 124 I/O95 (io), 129 I/O0 (io), 130 I/O1 (io), 131 I/O2 (io), 132 I/O3 (io), 133 I/O4 (io), 134 I/O5 (io), 136 I/O6 (io), 137 I/O7 (io), 139 I/O8 (io), 140 I/O9 (io), 141 I/O10 (io), 142 I/O11 (io), 144 I/O12 (io)
part B pins: 4 VCC (power), 5 TDI (in), 6 I5 (in), 7 GND (power), 8 I0/CLK0 (in), 9 I1/CLK1 (in), 12 VCC (power), 15 GND (power), 22 VCC (power), 23 GND (power), 30 GND (power), 31 TMS (in), 32 TCK (in), 33 VCC (power), 38 GND (power), 43 VCC (power), 46 GND (power), 53 VCC (power), 54 GND (power), 55 GND (power), 56 VCC (power), 63 GND (power), 66 VCC (power), 71 GND (power), 76 VCC (power), 77 ENABLE (in), 78 I2 (in), 79 GND (power), 86 GND (power), 87 VCC (power), 94 GND (power), 97 VCC (power), 100 I3/CLK2 (in), 101 I4/CLK3 (in), 102 GND (power), 103 TRST (in), 104 TDO (out), 105 VCC (power), 110 GND (power), 115 VCC (power), 118 GND (power), 125 VCC (power), 126 GND (power), 127 GND (power), 128 VCC (power), 135 GND (power), 138 VCC (power), 143 GND (power)
part A text: Block F; Block E; Block A; Block D; Block B; Block C

## MACH110-20JC
designator U?
High-Density EE CMOS Programmable Logic; Published: 23-Sep-2002; LatestRevisionDate: 13-Apr-2006; LatestRevisionNote: IPC-7351 Footprint Added.; DatasheetVersion: May-1995; PackageVersion: pkg_32, Aug-2005; PackageReference: PLCC44; Publisher: Altium Limited; PackageDescription: 44-Pin Leaded Chip Carrier 1.27 mm Pitch; Code_IPC: PLCC-44; ComponentLink1Description: Manufacturer Link; ComponentLink1URL: http://www.latticesemi.com/products/mature/index.cfm; ComponentLink2Description: Datasheet; ComponentLink2URL: http://www.latticesemi.com/lit/docs/datasheets/cpld/14127.pdf
footprint PLCC44_N (Leaded Chip Carrier, 44-Leads, Body 16.6x16.6mm, Pitch 1.27mm, IPC Medium Density)
footprint PLCC44_L (Leaded Chip Carrier, 44-Leads, Body 16.6x16.6mm, Pitch 1.27mm, IPC High Density)
footprint PLCC44_M (Leaded Chip Carrier, 44-Leads, Body 16.6x16.6mm, Pitch 1.27mm, IPC Low Density)
3D model MACH110-PLCC44 (44-Pin Leaded Chip Carrier 1.27 mm Pitch)
pins: 1 GND (power), 2 I/O0 (io), 3 I/O1 (io), 4 I/O2 (io), 5 I/O3 (io), 6 I/O4 (io), 7 I/O5 (io), 8 I/O6 (io), 9 I/O7 (io), 10 I0 (in), 11 I1 (in), 12 GND (power), 13 CLK0/I2 (in), 14 I/O8 (io), 15 I/O9 (io), 16 I/O10 (io), 17 I/O11 (io), 18 I/O12 (io), 19 I/O13 (io), 20 I/O14 (io), 21 I/O15 (io), 22 VCC (power), 23 GND (power), 24 I/O16 (io), 25 I/O17 (io), 26 I/O18 (io), 27 I/O19 (io), 28 I/O20 (io), 29 I/O21 (io), 30 I/O22 (io), 31 I/O23 (io), 32 I3 (in), 33 I4 (in), 34 GND (power), 35 CLK1/I5 (in), 36 I/O24 (io), 37 I/O25 (io), 38 I/O26 (io), 39 I/O27 (io), 40 I/O28 (io), 41 I/O29 (io), 42 I/O30 (io), 43 I/O31 (io), 44 VCC (power)

## MACH110-24JI
designator U?
High-Density EE CMOS Programmable Logic; Published: 23-Sep-2002; LatestRevisionDate: 13-Apr-2006; LatestRevisionNote: IPC-7351 Footprint Added.; DatasheetVersion: May-1995; PackageVersion: pkg_32, Aug-2005; PackageReference: PLCC44; Publisher: Altium Limited; PackageDescription: 44-Pin Leaded Chip Carrier 1.27 mm Pitch; Code_IPC: PLCC-44; ComponentLink1Description: Manufacturer Link; ComponentLink1URL: http://www.latticesemi.com/products/mature/index.cfm; ComponentLink2Description: Datasheet; ComponentLink2URL: http://www.latticesemi.com/lit/docs/datasheets/cpld/14127.pdf
footprint PLCC44_N (Leaded Chip Carrier, 44-Leads, Body 16.6x16.6mm, Pitch 1.27mm, IPC Medium Density)
footprint PLCC44_L (Leaded Chip Carrier, 44-Leads, Body 16.6x16.6mm, Pitch 1.27mm, IPC High Density)
footprint PLCC44_M (Leaded Chip Carrier, 44-Leads, Body 16.6x16.6mm, Pitch 1.27mm, IPC Low Density)
3D model MACH110-PLCC44 (44-Pin Leaded Chip Carrier 1.27 mm Pitch)
pins: 1 GND (power), 2 I/O0 (io), 3 I/O1 (io), 4 I/O2 (io), 5 I/O3 (io), 6 I/O4 (io), 7 I/O5 (io), 8 I/O6 (io), 9 I/O7 (io), 10 I0 (in), 11 I1 (in), 12 GND (power), 13 CLK0/I2 (in), 14 I/O8 (io), 15 I/O9 (io), 16 I/O10 (io), 17 I/O11 (io), 18 I/O12 (io), 19 I/O13 (io), 20 I/O14 (io), 21 I/O15 (io), 22 VCC (power), 23 GND (power), 24 I/O16 (io), 25 I/O17 (io), 26 I/O18 (io), 27 I/O19 (io), 28 I/O20 (io), 29 I/O21 (io), 30 I/O22 (io), 31 I/O23 (io), 32 I3 (in), 33 I4 (in), 34 GND (power), 35 CLK1/I5 (in), 36 I/O24 (io), 37 I/O25 (io), 38 I/O26 (io), 39 I/O27 (io), 40 I/O28 (io), 41 I/O29 (io), 42 I/O30 (io), 43 I/O31 (io), 44 VCC (power)

## MACH130-20JC
designator U?
High-Density EE CMOS Programmable Logic; Published: 23-Sep-2002; LatestRevisionDate: 13-Apr-2006; LatestRevisionNote: IPC-7351 Footprint Added.; DatasheetVersion: Apr-1995; PackageVersion: pkg_32, Aug-2005; PackageReference: PLCC84; Publisher: Altium Limited; PackageDescription: 84-Pin Leaded Chip Carrier 1.27 mm Pitch; Code_IPC: PLCC-84; ComponentLink1Description: Manufacturer Link; ComponentLink1URL: http://www.latticesemi.com/products/mature/index.cfm; ComponentLink2Description: Datasheet; ComponentLink2URL: http://www.latticesemi.com/lit/docs/datasheets/cpld/14131.pdf
footprint PLCC84_N (Leaded Chip Carrier, 84-Leads, Body 29.3x29.3mm, Pitch 1.27mm, IPC Medium Density)
footprint PLCC84_L (Leaded Chip Carrier, 84-Leads, Body 29.3x29.3mm, Pitch 1.27mm, IPC High Density)
footprint PLCC84_M (Leaded Chip Carrier, 84-Leads, Body 29.3x29.3mm, Pitch 1.27mm, IPC Low Density)
3D model MACH130-PLCC84 (84-Pin Leaded Chip Carrier 1.27 mm Pitch)
pins: 1 GND (power), 2 VCC (power), 3 I/O0 (io), 4 I/O1 (io), 5 I/O2 (io), 6 I/O3 (io), 7 I/O4 (io), 8 I/O5 (io), 9 I/O6 (io), 10 I/O7 (io), 11 GND (power), 12 I/O8 (io), 13 I/O9 (io), 14 I/O10 (io), 15 I/O11 (io), 16 I/O12 (io), 17 I/O13 (io), 18 I/O14 (io), 19 I/O15 (io), 20 CLK0/I0 (in), 21 VCC (power), 22 GND (power), 23 CLK1/I1 (in), 24 I/O16 (io), 25 I/O17 (io), 26 I/O18 (io), 27 I/O19 (io), 28 I/O20 (io), 29 I/O21 (io), 30 I/O22 (io), 31 I/O23 (io), 32 GND (power), 33 I/O24 (io), 34 I/O25 (io), 35 I/O26 (io), 36 I/O27 (io), 37 I/O28 (io), 38 I/O29 (io), 39 I/O30 (io), 40 I/O31 (io), 41 I2 (in), 42 VCC (power), 43 GND (power), 44 VCC (power), 45 I/O32 (io), 46 I/O33 (io), 47 I/O34 (io), 48 I/O35 (io), 49 I/O36 (io), 50 I/O37 (io), 51 I/O38 (io), 52 I/O39 (io), 53 GND (power), 54 I/O40 (io), 55 I/O41 (io), 56 I/O42 (io), 57 I/O43 (io), 58 I/O44 (io), 59 I/O45 (io), 60 I/O46 (io), 61 I/O47 (io), 62 CLK2/I3 (in), 63 VCC (power), 64 GND (power), 65 CLK3/I4 (in), 66 I/O48 (io), 67 I/O49 (io), 68 I/O50 (io), 69 I/O51 (io), 70 I/O52 (io), 71 I/O53 (io), 72 I/O54 (io), 73 I/O55 (io), 74 GND (power), 75 I/O56 (io), 76 I/O57 (io), 77 I/O58 (io), 78 I/O59 (io), 79 I/O60 (io), 80 I/O61 (io), 81 I/O62 (io), 82 I/O63 (io), 83 I5 (in), 84 VCC (power)

## MACH130-24JI
designator U?
High-Density EE CMOS Programmable Logic; Published: 23-Sep-2002; LatestRevisionDate: 13-Apr-2006; LatestRevisionNote: IPC-7351 Footprint Added.; DatasheetVersion: Apr-1995; PackageVersion: pkg_32, Aug-2005; PackageReference: PLCC84; Publisher: Altium Limited; PackageDescription: 84-Pin Leaded Chip Carrier 1.27 mm Pitch; Code_IPC: PLCC-84; ComponentLink1Description: Manufacturer Link; ComponentLink1URL: http://www.latticesemi.com/products/mature/index.cfm; ComponentLink2Description: Datasheet; ComponentLink2URL: http://www.latticesemi.com/lit/docs/datasheets/cpld/14131.pdf
footprint PLCC84_N (Leaded Chip Carrier, 84-Leads, Body 29.3x29.3mm, Pitch 1.27mm, IPC Medium Density)
footprint PLCC84_L (Leaded Chip Carrier, 84-Leads, Body 29.3x29.3mm, Pitch 1.27mm, IPC High Density)
footprint PLCC84_M (Leaded Chip Carrier, 84-Leads, Body 29.3x29.3mm, Pitch 1.27mm, IPC Low Density)
3D model MACH130-PLCC84 (84-Pin Leaded Chip Carrier 1.27 mm Pitch)
pins: 1 GND (power), 2 VCC (power), 3 I/O0 (io), 4 I/O1 (io), 5 I/O2 (io), 6 I/O3 (io), 7 I/O4 (io), 8 I/O5 (io), 9 I/O6 (io), 10 I/O7 (io), 11 GND (power), 12 I/O8 (io), 13 I/O9 (io), 14 I/O10 (io), 15 I/O11 (io), 16 I/O12 (io), 17 I/O13 (io), 18 I/O14 (io), 19 I/O15 (io), 20 CLK0/I0 (in), 21 VCC (power), 22 GND (power), 23 CLK1/I1 (in), 24 I/O16 (io), 25 I/O17 (io), 26 I/O18 (io), 27 I/O19 (io), 28 I/O20 (io), 29 I/O21 (io), 30 I/O22 (io), 31 I/O23 (io), 32 GND (power), 33 I/O24 (io), 34 I/O25 (io), 35 I/O26 (io), 36 I/O27 (io), 37 I/O28 (io), 38 I/O29 (io), 39 I/O30 (io), 40 I/O31 (io), 41 I2 (in), 42 VCC (power), 43 GND (power), 44 VCC (power), 45 I/O32 (io), 46 I/O33 (io), 47 I/O34 (io), 48 I/O35 (io), 49 I/O36 (io), 50 I/O37 (io), 51 I/O38 (io), 52 I/O39 (io), 53 GND (power), 54 I/O40 (io), 55 I/O41 (io), 56 I/O42 (io), 57 I/O43 (io), 58 I/O44 (io), 59 I/O45 (io), 60 I/O46 (io), 61 I/O47 (io), 62 CLK2/I3 (in), 63 VCC (power), 64 GND (power), 65 CLK3/I4 (in), 66 I/O48 (io), 67 I/O49 (io), 68 I/O50 (io), 69 I/O51 (io), 70 I/O52 (io), 71 I/O53 (io), 72 I/O54 (io), 73 I/O55 (io), 74 GND (power), 75 I/O56 (io), 76 I/O57 (io), 77 I/O58 (io), 78 I/O59 (io), 79 I/O60 (io), 80 I/O61 (io), 81 I/O62 (io), 82 I/O63 (io), 83 I5 (in), 84 VCC (power)

## MACH210-20JC
designator U?
High-Density EE CMOS Programmable Logic; Published: 23-Sep-2002; LatestRevisionDate: 13-Apr-2006; LatestRevisionNote: IPC-7351 Footprint Added.; DatasheetVersion: Apr-1995; PackageVersion: pkg_32, Aug-2005; PackageReference: PLCC44; Publisher: Altium Limited; PackageDescription: 44-Pin Leaded Chip Carrier 1.27 mm Pitch; Code_IPC: PLCC-44; ComponentLink1Description: Manufacturer Link; ComponentLink1URL: http://www.latticesemi.com/products/mature/index.cfm; ComponentLink2Description: Datasheet; ComponentLink2URL: http://www.latticesemi.com/lit/docs/datasheets/cpld/14128.pdf
footprint PLCC44_N (Leaded Chip Carrier, 44-Leads, Body 16.6x16.6mm, Pitch 1.27mm, IPC Medium Density)
footprint PLCC44_L (Leaded Chip Carrier, 44-Leads, Body 16.6x16.6mm, Pitch 1.27mm, IPC High Density)
footprint PLCC44_M (Leaded Chip Carrier, 44-Leads, Body 16.6x16.6mm, Pitch 1.27mm, IPC Low Density)
3D model MACH210-PLCC44 (44-Pin Leaded Chip Carrier 1.27 mm Pitch)
pins: 1 GND (power), 2 I/O0 (io), 3 I/O1 (io), 4 I/O2 (io), 5 I/O3 (io), 6 I/O4 (io), 7 I/O5 (io), 8 I/O6 (io), 9 I/O7 (io), 10 I0 (in), 11 I1 (in), 12 GND (power), 13 CLK0/I2 (in), 14 I/O8 (io), 15 I/O9 (io), 16 I/O10 (io), 17 I/O11 (io), 18 I/O12 (io), 19 I/O13 (io), 20 I/O14 (io), 21 I/O15 (io), 22 VCC (power), 23 GND (power), 24 I/O16 (io), 25 I/O17 (io), 26 I/O18 (io), 27 I/O19 (io), 28 I/O20 (io), 29 I/O21 (io), 30 I/O22 (io), 31 I/O23 (io), 32 I3 (in), 33 I4 (in), 34 GND (power), 35 CLK1/I5 (in), 36 I/O24 (io), 37 I/O25 (io), 38 I/O26 (io), 39 I/O27 (io), 40 I/O28 (io), 41 I/O29 (io), 42 I/O30 (io), 43 I/O31 (io), 44 VCC (power)

## MACH210-24JI
designator U?
High-Density EE CMOS Programmable Logic; Published: 23-Sep-2002; LatestRevisionDate: 13-Apr-2006; LatestRevisionNote: IPC-7351 Footprint Added.; DatasheetVersion: Apr-1995; PackageVersion: pkg_32, Aug-2005; PackageReference: PLCC44; Publisher: Altium Limited; PackageDescription: 44-Pin Leaded Chip Carrier 1.27 mm Pitch; Code_IPC: PLCC-44; ComponentLink1Description: Manufacturer Link; ComponentLink1URL: http://www.latticesemi.com/products/mature/index.cfm; ComponentLink2Description: Datasheet; ComponentLink2URL: http://www.latticesemi.com/lit/docs/datasheets/cpld/14128.pdf
footprint PLCC44_N (Leaded Chip Carrier, 44-Leads, Body 16.6x16.6mm, Pitch 1.27mm, IPC Medium Density)
footprint PLCC44_L (Leaded Chip Carrier, 44-Leads, Body 16.6x16.6mm, Pitch 1.27mm, IPC High Density)
footprint PLCC44_M (Leaded Chip Carrier, 44-Leads, Body 16.6x16.6mm, Pitch 1.27mm, IPC Low Density)
3D model MACH210-PLCC44 (44-Pin Leaded Chip Carrier 1.27 mm Pitch)
pins: 1 GND (power), 2 I/O0 (io), 3 I/O1 (io), 4 I/O2 (io), 5 I/O3 (io), 6 I/O4 (io), 7 I/O5 (io), 8 I/O6 (io), 9 I/O7 (io), 10 I0 (in), 11 I1 (in), 12 GND (power), 13 CLK0/I2 (in), 14 I/O8 (io), 15 I/O9 (io), 16 I/O10 (io), 17 I/O11 (io), 18 I/O12 (io), 19 I/O13 (io), 20 I/O14 (io), 21 I/O15 (io), 22 VCC (power), 23 GND (power), 24 I/O16 (io), 25 I/O17 (io), 26 I/O18 (io), 27 I/O19 (io), 28 I/O20 (io), 29 I/O21 (io), 30 I/O22 (io), 31 I/O23 (io), 32 I3 (in), 33 I4 (in), 34 GND (power), 35 CLK1/I5 (in), 36 I/O24 (io), 37 I/O25 (io), 38 I/O26 (io), 39 I/O27 (io), 40 I/O28 (io), 41 I/O29 (io), 42 I/O30 (io), 43 I/O31 (io), 44 VCC (power)

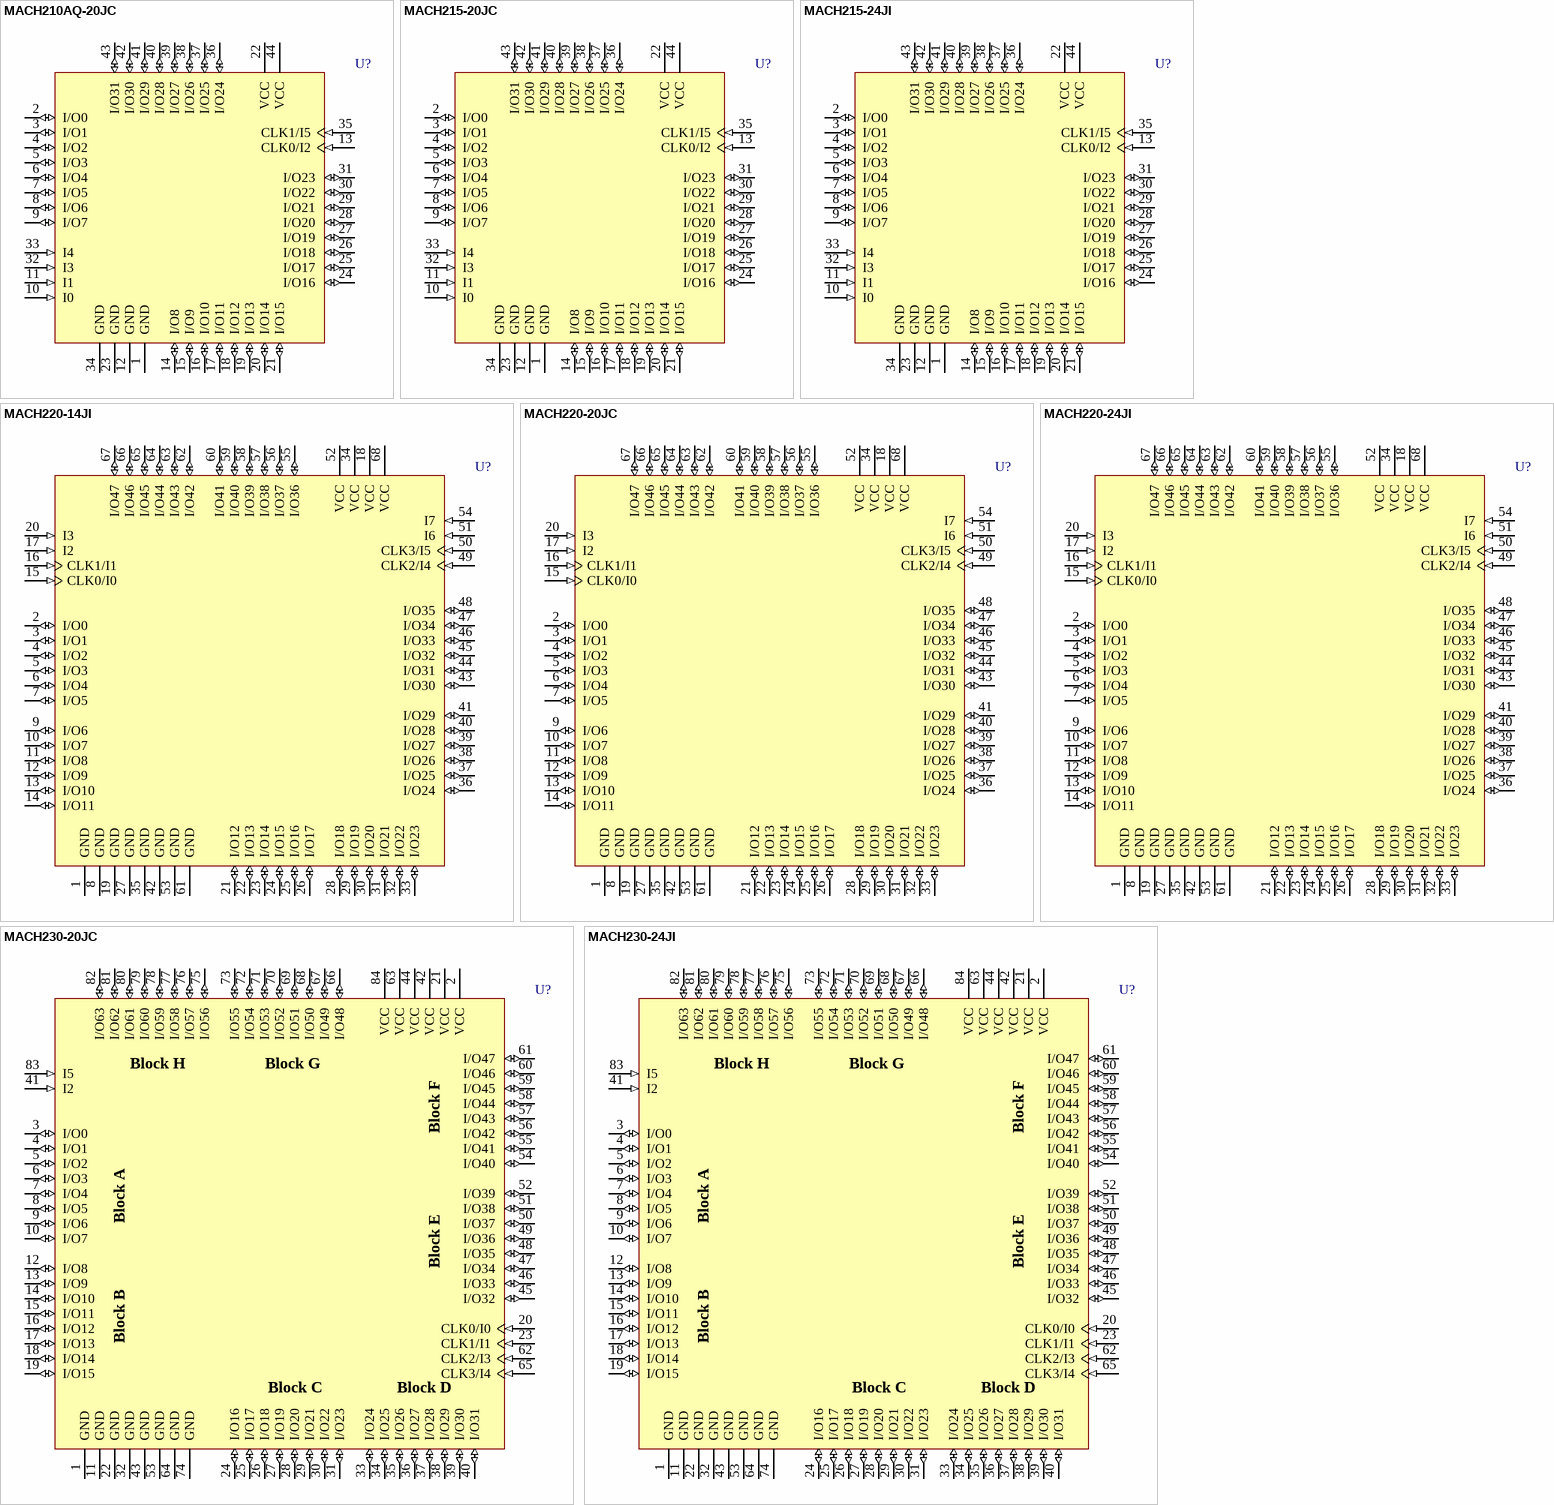
[diagram p305: symbols MACH210AQ-20JC to MACH230-24JI]

## MACH210AQ-20JC
designator U?
High-Density EE CMOS Programmable Logic; Published: 23-Sep-2002; LatestRevisionDate: 13-Apr-2006; LatestRevisionNote: IPC-7351 Footprint Added.; DatasheetVersion: Apr-1995; PackageVersion: pkg_32, Aug-2005; PackageReference: PLCC44; Publisher: Altium Limited; PackageDescription: 44-Pin Leaded Chip Carrier 1.27 mm Pitch; Code_IPC: PLCC-44; ComponentLink1Description: Manufacturer Link; ComponentLink1URL: http://www.latticesemi.com/products/mature/index.cfm; ComponentLink2Description: Datasheet; ComponentLink2URL: http://www.latticesemi.com/lit/docs/datasheets/cpld/14128.pdf
footprint PLCC44_N (Leaded Chip Carrier, 44-Leads, Body 16.6x16.6mm, Pitch 1.27mm, IPC Medium Density)
footprint PLCC44_L (Leaded Chip Carrier, 44-Leads, Body 16.6x16.6mm, Pitch 1.27mm, IPC High Density)
footprint PLCC44_M (Leaded Chip Carrier, 44-Leads, Body 16.6x16.6mm, Pitch 1.27mm, IPC Low Density)
3D model MACH210AQ-PLCC44 (44-Pin Leaded Chip Carrier 1.27 mm Pitch)
pins: 1 GND (power), 2 I/O0 (io), 3 I/O1 (io), 4 I/O2 (io), 5 I/O3 (io), 6 I/O4 (io), 7 I/O5 (io), 8 I/O6 (io), 9 I/O7 (io), 10 I0 (in), 11 I1 (in), 12 GND (power), 13 CLK0/I2 (in), 14 I/O8 (io), 15 I/O9 (io), 16 I/O10 (io), 17 I/O11 (io), 18 I/O12 (io), 19 I/O13 (io), 20 I/O14 (io), 21 I/O15 (io), 22 VCC (power), 23 GND (power), 24 I/O16 (io), 25 I/O17 (io), 26 I/O18 (io), 27 I/O19 (io), 28 I/O20 (io), 29 I/O21 (io), 30 I/O22 (io), 31 I/O23 (io), 32 I3 (in), 33 I4 (in), 34 GND (power), 35 CLK1/I5 (in), 36 I/O24 (io), 37 I/O25 (io), 38 I/O26 (io), 39 I/O27 (io), 40 I/O28 (io), 41 I/O29 (io), 42 I/O30 (io), 43 I/O31 (io), 44 VCC (power)

## MACH215-20JC
designator U?
High-Density EE CMOS Programmable Logic; Published: 23-Sep-2002; LatestRevisionDate: 13-Apr-2006; LatestRevisionNote: IPC-7351 Footprint Added.; DatasheetVersion: May-1995; PackageVersion: pkg_32, Aug-2005; PackageReference: PLCC44; Publisher: Altium Limited; PackageDescription: 44-Pin Leaded Chip Carrier 1.27 mm Pitch; Code_IPC: PLCC-44; ComponentLink1Description: Manufacturer Link; ComponentLink1URL: http://www.latticesemi.com/products/mature/index.cfm; ComponentLink2Description: Datasheet; ComponentLink2URL: http://www.latticesemi.com/lit/docs/datasheets/cpld/16751.pdf
footprint PLCC44_N (Leaded Chip Carrier, 44-Leads, Body 16.6x16.6mm, Pitch 1.27mm, IPC Medium Density)
footprint PLCC44_L (Leaded Chip Carrier, 44-Leads, Body 16.6x16.6mm, Pitch 1.27mm, IPC High Density)
footprint PLCC44_M (Leaded Chip Carrier, 44-Leads, Body 16.6x16.6mm, Pitch 1.27mm, IPC Low Density)
3D model MACH215-PLCC44 (44-Pin Leaded Chip Carrier 1.27 mm Pitch)
pins: 1 GND (power), 2 I/O0 (io), 3 I/O1 (io), 4 I/O2 (io), 5 I/O3 (io), 6 I/O4 (io), 7 I/O5 (io), 8 I/O6 (io), 9 I/O7 (io), 10 I0 (in), 11 I1 (in), 12 GND (power), 13 CLK0/I2 (in), 14 I/O8 (io), 15 I/O9 (io), 16 I/O10 (io), 17 I/O11 (io), 18 I/O12 (io), 19 I/O13 (io), 20 I/O14 (io), 21 I/O15 (io), 22 VCC (power), 23 GND (power), 24 I/O16 (io), 25 I/O17 (io), 26 I/O18 (io), 27 I/O19 (io), 28 I/O20 (io), 29 I/O21 (io), 30 I/O22 (io), 31 I/O23 (io), 32 I3 (in), 33 I4 (in), 34 GND (power), 35 CLK1/I5 (in), 36 I/O24 (io), 37 I/O25 (io), 38 I/O26 (io), 39 I/O27 (io), 40 I/O28 (io), 41 I/O29 (io), 42 I/O30 (io), 43 I/O31 (io), 44 VCC (power)

## MACH215-24JI
designator U?
High-Density EE CMOS Programmable Logic; Published: 23-Sep-2002; LatestRevisionDate: 13-Apr-2006; LatestRevisionNote: IPC-7351 Footprint Added.; DatasheetVersion: May-1995; PackageVersion: pkg_32, Aug-2005; PackageReference: PLCC44; Publisher: Altium Limited; PackageDescription: 44-Pin Leaded Chip Carrier 1.27 mm Pitch; Code_IPC: PLCC-44; ComponentLink1Description: Manufacturer Link; ComponentLink1URL: http://www.latticesemi.com/products/mature/index.cfm; ComponentLink2Description: Datasheet; ComponentLink2URL: http://www.latticesemi.com/lit/docs/datasheets/cpld/16751.pdf
footprint PLCC44_N (Leaded Chip Carrier, 44-Leads, Body 16.6x16.6mm, Pitch 1.27mm, IPC Medium Density)
footprint PLCC44_L (Leaded Chip Carrier, 44-Leads, Body 16.6x16.6mm, Pitch 1.27mm, IPC High Density)
footprint PLCC44_M (Leaded Chip Carrier, 44-Leads, Body 16.6x16.6mm, Pitch 1.27mm, IPC Low Density)
3D model MACH215-PLCC44 (44-Pin Leaded Chip Carrier 1.27 mm Pitch)
pins: 1 GND (power), 2 I/O0 (io), 3 I/O1 (io), 4 I/O2 (io), 5 I/O3 (io), 6 I/O4 (io), 7 I/O5 (io), 8 I/O6 (io), 9 I/O7 (io), 10 I0 (in), 11 I1 (in), 12 GND (power), 13 CLK0/I2 (in), 14 I/O8 (io), 15 I/O9 (io), 16 I/O10 (io), 17 I/O11 (io), 18 I/O12 (io), 19 I/O13 (io), 20 I/O14 (io), 21 I/O15 (io), 22 VCC (power), 23 GND (power), 24 I/O16 (io), 25 I/O17 (io), 26 I/O18 (io), 27 I/O19 (io), 28 I/O20 (io), 29 I/O21 (io), 30 I/O22 (io), 31 I/O23 (io), 32 I3 (in), 33 I4 (in), 34 GND (power), 35 CLK1/I5 (in), 36 I/O24 (io), 37 I/O25 (io), 38 I/O26 (io), 39 I/O27 (io), 40 I/O28 (io), 41 I/O29 (io), 42 I/O30 (io), 43 I/O31 (io), 44 VCC (power)

## MACH220-14JI
designator U?
High-Density EE CMOS Programmable Logic; Published: 23-Sep-2002; LatestRevisionDate: 13-Apr-2006; LatestRevisionNote: IPC-7351 Footprint Added.; DatasheetVersion: May-1995; PackageVersion: pkg_32, Aug-2005; PackageReference: PLCC68; Publisher: Altium Limited; PackageDescription: 68-Pin Leaded Chip Carrier 1.27 mm Pitch; Code_IPC: PLCC-68; ComponentLink1Description: Manufacturer Link; ComponentLink1URL: http://www.latticesemi.com/products/mature/index.cfm; ComponentLink2Description: Datasheet; ComponentLink2URL: http://www.latticesemi.com/lit/docs/datasheets/cpld/14130.pdf
footprint PLCC68_N (Leaded Chip Carrier, 68-Leads, Body 24x24mm, Pitch 1.27mm, IPC Medium Density)
footprint PLCC68_L (Leaded Chip Carrier, 68-Leads, Body 24x24mm, Pitch 1.27mm, IPC High Density)
footprint PLCC68_M (Leaded Chip Carrier, 68-Leads, Body 24x24mm, Pitch 1.27mm, IPC Low Density)
3D model MACH220-PLCC68 (68-Pin Leaded Chip Carrier 1.27 mm Pitch)
pins: 1 GND (power), 2 I/O0 (io), 3 I/O1 (io), 4 I/O2 (io), 5 I/O3 (io), 6 I/O4 (io), 7 I/O5 (io), 8 GND (power), 9 I/O6 (io), 10 I/O7 (io), 11 I/O8 (io), 12 I/O9 (io), 13 I/O10 (io), 14 I/O11 (io), 15 CLK0/I0 (in), 16 CLK1/I1 (in), 17 I2 (in), 18 VCC (power), 19 GND (power), 20 I3 (in), 21 I/O12 (io), 22 I/O13 (io), 23 I/O14 (io), 24 I/O15 (io), 25 I/O16 (io), 26 I/O17 (io), 27 GND (power), 28 I/O18 (io), 29 I/O19 (io), 30 I/O20 (io), 31 I/O21 (io), 32 I/O22 (io), 33 I/O23 (io), 34 VCC (power), 35 GND (power), 36 I/O24 (io), 37 I/O25 (io), 38 I/O26 (io), 39 I/O27 (io), 40 I/O28 (io), 41 I/O29 (io), 42 GND (power), 43 I/O30 (io), 44 I/O31 (io), 45 I/O32 (io), 46 I/O33 (io), 47 I/O34 (io), 48 I/O35 (io), 49 CLK2/I4 (in), 50 CLK3/I5 (in), 51 I6 (in), 52 VCC (power), 53 GND (power), 54 I7 (in), 55 I/O36 (io), 56 I/O37 (io), 57 I/O38 (io), 58 I/O39 (io), 59 I/O40 (io), 60 I/O41 (io), 61 GND (power), 62 I/O42 (io), 63 I/O43 (io), 64 I/O44 (io), 65 I/O45 (io), 66 I/O46 (io), 67 I/O47 (io), 68 VCC (power)